# Altium schematic symbol library lib_protel_HC_BOINA.SCHLIB: 493 symbols (part 2 of 4)
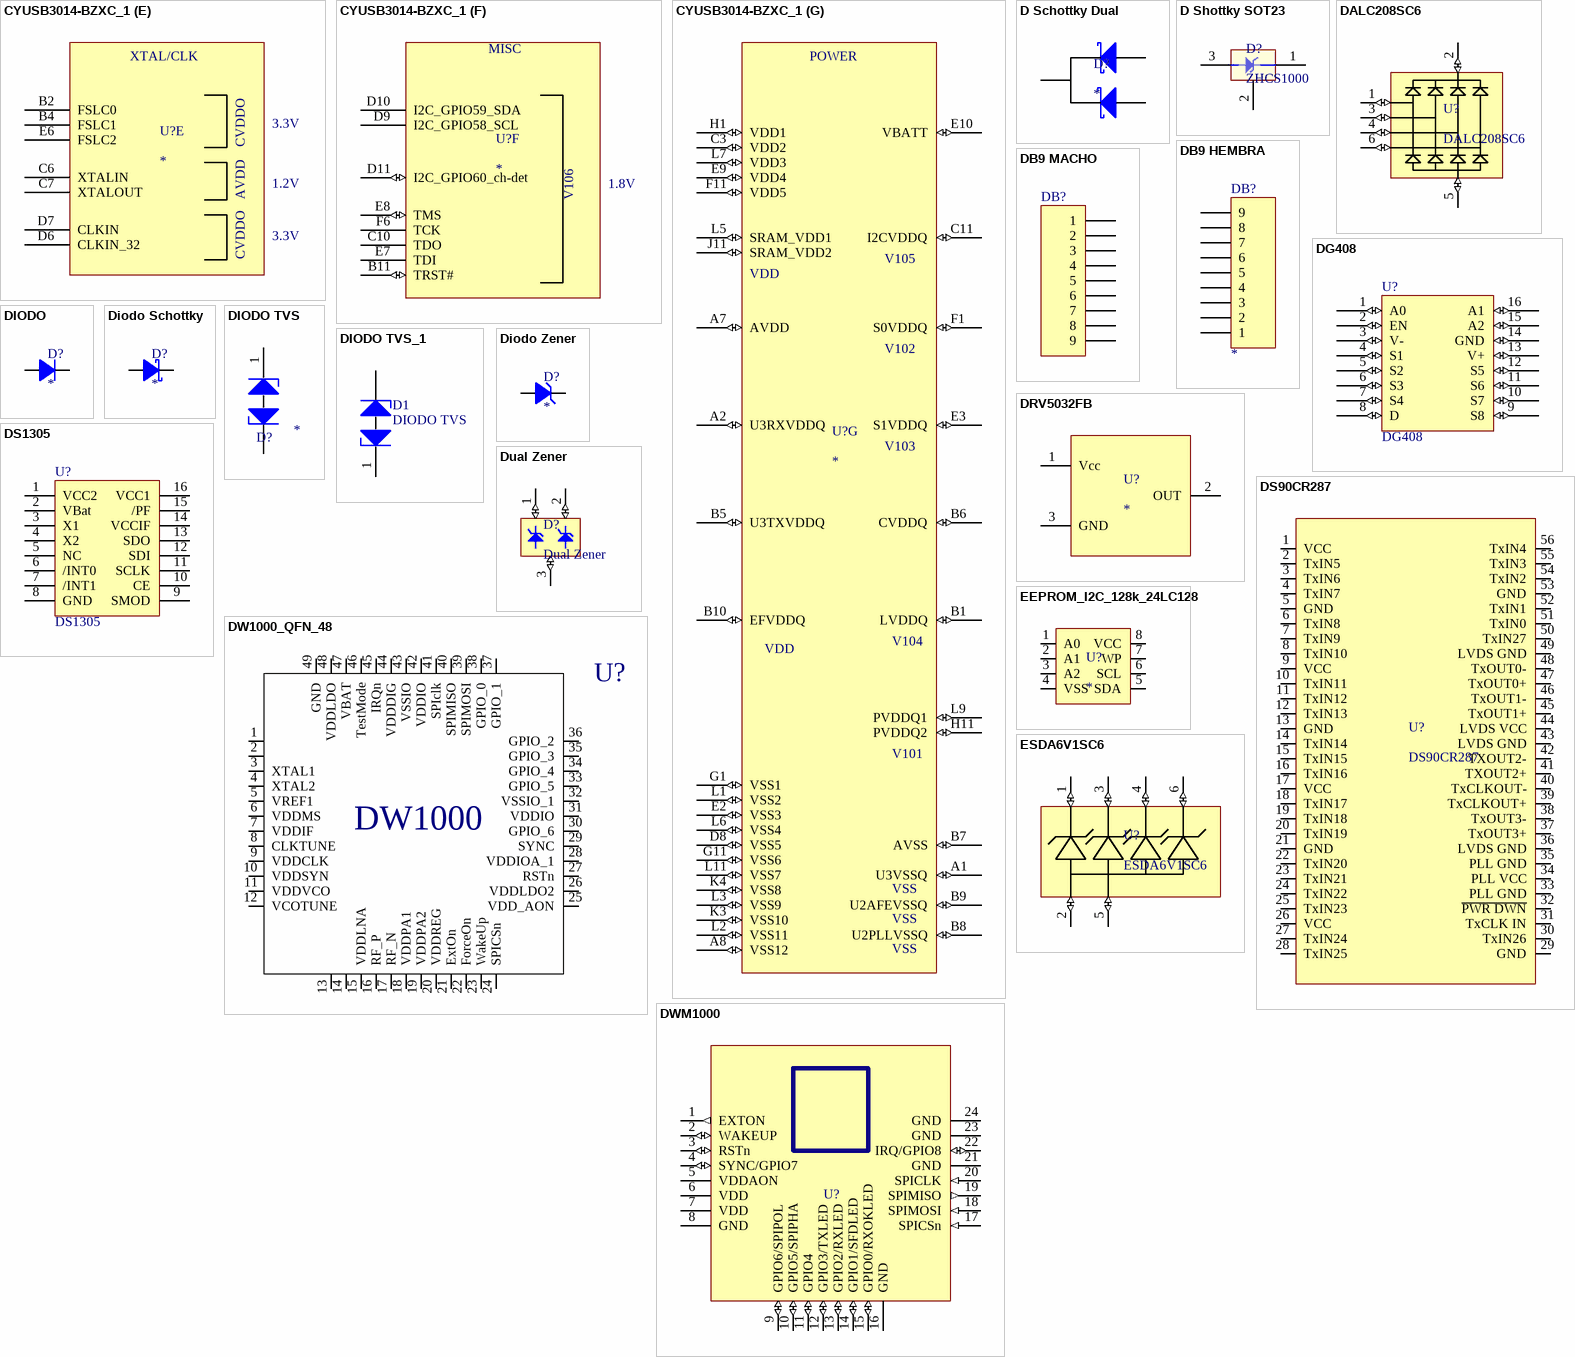
[diagram p22: symbols CYUSB3014-BZXC_1 to ESDA6V1SC6]

## DS90CR287
designator U?
CODIGO DIGIKEY: *; CODIGO FARNELL: *; PRECIO DIGIKEY: *; PRECIO FARNELL: *; FABRICANTE: *; DISTRIBUIDOR: *; MODELO: DS90CR287
pins: 1 VCC (power), 2 TxIN5 (io), 3 TxIN6 (io), 4 TxIN7 (io), 5 GND (power), 6 TxIN8 (io), 7 TxIN9 (io), 8 TxIN10 (io), 9 VCC (power), 10 TxIN11 (io), 11 TxIN12 (io), 12 TxIN13 (io), 13 GND (power), 14 TxIN14 (io), 15 TxIN15 (io), 16 TxIN16 (io), 17 VCC (power), 18 TxIN17 (io), 19 TxIN18 (io), 20 TxIN19 (io), 21 GND (power), 22 TxIN20 (io), 23 TxIN21 (io), 24 TxIN22 (io), 25 TxIN23 (io), 26 VCC (power), 27 TxIN24 (io), 28 TxIN25 (io), 29 GND (power), 30 TxIN26 (io), 31 TxCLK IN (io), 32 ~{PWR DWN} (io), 33 PLL GND (power), 34 PLL VCC (power), 35 PLL GND (power), 36 LVDS GND (power), 37 TxOUT3+ (io), 38 TxOUT3- (io), 39 TxCLKOUT+ (io), 40 TxCLKOUT- (io), 41 TXOUT2+ (io), 42 TXOUT2- (io), 43 LVDS GND (power), 44 LVDS VCC (power), 45 TxOUT1+ (io), 46 TxOUT1- (io), 47 TxOUT0+ (io), 48 TxOUT0- (io), 49 LVDS GND (power), 50 TxIN27 (io), 51 TxIN0 (io), 52 TxIN1 (io), 53 GND (power), 54 TxIN2 (io), 55 TxIN3 (io), 56 TxIN4 (io)

## DS1305
designator U?
Serial Alarm Real Time Clock
footprint DIP-16
pins: 1 VCC2 (power), 2 VBat (power), 3 X1, 4 X2, 5 NC, 6 /INT0, 7 /INT1, 8 GND, 9 SMOD, 10 CE, 11 SCLK, 12 SDI, 13 SDO, 14 VCCIF, 15 /PF, 16 VCC1 (power)

## Dual Zener
designator D?
Diodo con ánodo común; REF - DIGI KEY: AZ23C3V9-TPMSCT-ND
footprint SOT-23 Zener (Dual Zener Common Anode)
pins: 1 (io) "common anode", 2 (io) "common anode", 3 (io) "anode"

## DW1000_QFN_48
designator U?  (value not drawn)
UWB DW1000; CODIGO MOUSER: *; DISTRIBUIDOR1: *; DISTRIBUIDOR2: *; FABRICANTE: *; REF_FABRICANTE: *
pins: 1, 2, 3 XTAL1, 4 XTAL2, 5 VREF1, 6 VDDMS, 7 VDDIF, 8 CLKTUNE, 9 VDDCLK, 10 VDDSYN, 11 VDDVCO, 12 VCOTUNE, 13, 14, 15 VDDLNA, 16 RF_P, 17 RF_N, 18 VDDPA1, 19 VDDPA2, 20 VDDREG, 21 ExtOn, 22 ForceOn, 23 WakeUp, 24 SPICSn, 25 VDD_AON, 26 VDDLDO2, 27 RSTn, 28 VDDIOA_1, 29 SYNC, 30 GPIO_6, 31 VDDIO, 32 VSSIO_1, 33 GPIO_5, 34 GPIO_4, 35 GPIO_3, 36 GPIO_2, 37 GPIO_1, 38 GPIO_0, 39 SPIMOSI, 40 SPIMISO, 41 SPIclk, 42 VDDIO, 43 VSSIO, 44 VDDDIG, 45 IRQn, 46 TestMode, 47 VBAT, 48 VDDLDO, 49 GND
text: DW1000

## DWM1000
designator U?  (value not drawn)
Decawave Módulo; CODIGO DIGIKEY: *; CODIGO MOUSER: *; CODIGO FARNELL: *; ComponentLink1Description: *; ComponentLink1URL: *; REF_FABRICANTE: *; FABRICANTE: *; DISTRIBUIDOR1: *; DISTRIBUIDOR2: *
pins: 1 EXTON (out), 2 WAKEUP (io), 3 RSTn (io), 4 SYNC/GPIO7 (io), 5 VDDAON (power), 6 VDD (power), 7 VDD (power), 8 GND (power), 9 GPIO6/SPIPOL (io), 10 GPIO5/SPIPHA (io), 11 GPIO4 (io), 12 GPIO3/TXLED (io), 13 GPIO2/RXLED (io), 14 GPIO1/SFDLED (io), 15 GPIO0/RXOKLED (io), 16 GND (power), 17 SPICSn (in), 18 SPIMOSI (in), 19 SPIMISO (out), 20 SPICLK (in), 21 GND (power), 22 IRQ/GPIO8 (io), 23 GND (power), 24 GND (power)

## EEPROM_I2C_128k_24LC128
designator U?
CODIGO FARNELL: *; PRECIO FARNELL: *
pins: 1 A0, 2 A1, 3 A2, 4 VSS, 5 SDA, 6 SCL, 7 WP, 8 VCC

## ESDA6V1SC6
designator U?
CODIGO PRODUCTO: ESDA6V1SC6; CODIGO FARNELL: 9802274; CODIGO DIGIKEY: 497-6637-1-ND; PRECIO DIGIKEY 1: 0.58; PRECIO DIGIKEY 100: 0.396; PRECIO DIGIKEY 1000: 0.231; PRECIO DIGIKEY 42000: 0.1863; PRECIO FARNELL 1: 0.65; PRECIO FARNELL 100: 0.36; PRECIO FARNELL 1000: 0.3
footprint SOT 23_6
pins: 1 (io), 2 (io), 3 (io), 4 (io), 5 (io), 6 (io)

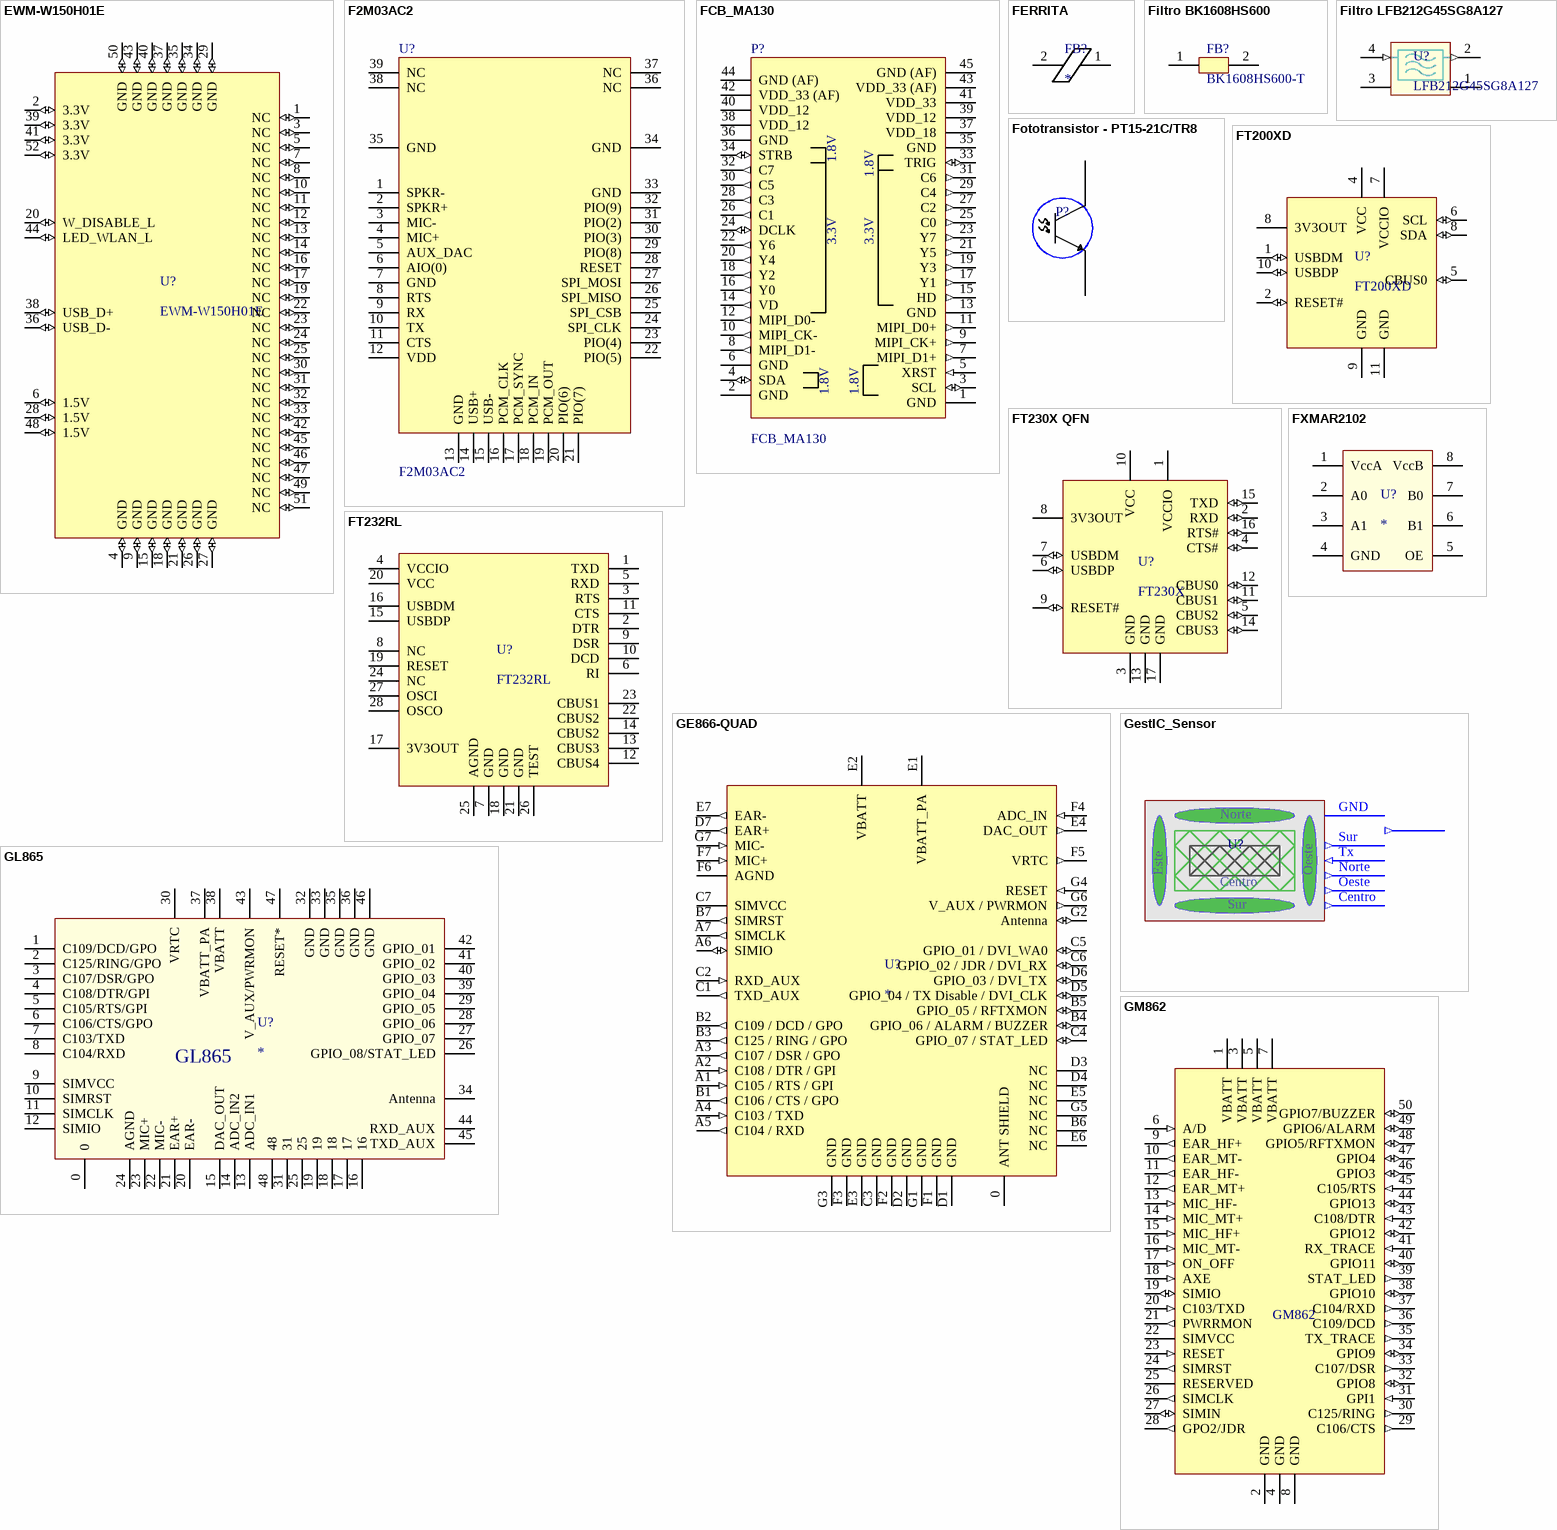
[diagram p7: symbols EWM-W150H01E to GM862]

## EWM-W150H01E
designator U?
FABRICANTE: *; CODIGO FABRICANTE: *; CODIGO DIGIKEY: *; CODIGO FARNELL: *; CODIGO MOUSER: *; DISTRIBUIDOR 1: *; DISTRIBUIDOR 2: *
pins: 1 NC (io), 2 3.3V (io), 3 NC (io), 4 GND (io), 5 NC (io), 6 1.5V (io), 7 NC (io), 8 NC (io), 9 GND (io), 10 NC (io), 11 NC (io), 12 NC (io), 13 NC (io), 14 NC (io), 15 GND (io), 16 NC (io), 17 NC (io), 18 GND (io), 19 NC (io), 20 W_DISABLE_L (io), 21 GND (io), 22 NC (io), 23 NC (io), 24 NC (io), 25 NC (io), 26 GND (io), 27 GND (io), 28 1.5V (io), 29 GND (io), 30 NC (io), 31 NC (io), 32 NC (io), 33 NC (io), 34 GND (io), 35 GND (io), 36 USB_D- (io), 37 GND (io), 38 USB_D+ (io), 39 3.3V (io), 40 GND (io), 41 3.3V (io), 42 NC (io), 43 GND (io), 44 LED_WLAN_L (io), 45 NC (io), 46 NC (io), 47 NC (io), 48 1.5V (io), 49 NC (io), 50 GND (io), 51 NC (io), 52 3.3V (io)

## F2M03AC2
designator U?
footprint F2M03AC2 (modulo bluetooth free2move)
pins: 1 SPKR-, 2 SPKR+, 3 MIC-, 4 MIC+, 5 AUX_DAC, 6 AIO(0), 7 GND, 8 RTS, 9 RX, 10 TX, 11 CTS, 12 VDD, 13 GND, 14 USB+, 15 USB-, 16 PCM_CLK, 17 PCM_SYNC, 18 PCM_IN, 19 PCM_OUT, 20 PIO(6), 21 PIO(7), 22 PIO(5), 23 PIO(4), 24 SPI_CLK, 25 SPI_CSB, 26 SPI_MISO, 27 SPI_MOSI, 28 RESET, 29 PIO(8), 30 PIO(3), 31 PIO(2), 32 PIO(9), 33 GND, 34 GND, 35 GND, 36 NC, 37 NC, 38 NC, 39 NC

## FCB_MA130
designator P?
FCB_MA130 CAMARA SONY; LatestRevisionDate: 17-Jul-2002; LatestRevisionNote: Re-released for DXP Platform.; Publisher: Altium Limited; Distributer: *; Distributer p/n: *; Manufacturer: *; Manufacturer p/n: *
signal-integrity model Connector
pins: 1 GND (power), 2 GND (power), 3 SCL (io), 4 SDA (io), 5 XRST (in), 6 GND (power), 7 MIPI_D1+ (out), 8 MIPI_D1- (out), 9 MIPI_CK+ (out), 10 MIPI_CK- (out), 11 MIPI_D0+ (out), 12 MIPI_D0- (out), 13 GND (power), 14 VD (out), 15 HD (out), 16 Y0 (out), 17 Y1 (out), 18 Y2 (out), 19 Y3 (out), 20 Y4 (out), 21 Y5 (out), 22 Y6 (out), 23 Y7 (out), 24 DCLK (io), 25 C0 (out), 26 C1 (out), 27 C2 (out), 28 C3 (out), 29 C4 (out), 30 C5 (out), 31 C6 (out), 32 C7 (out), 33 TRIG (io), 34 STRB (io), 35 GND (power), 36 GND (power), 37 VDD_18 (power), 38 VDD_12 (power), 39 VDD_12 (power), 40 VDD_12 (power), 41 VDD_33 (power), 42 VDD_33 (AF) (power), 43 VDD_33 (AF) (power), 44 GND (AF) (power), 45 GND (AF) (power)
text: 1.8V; 3.3V

## FERRITA
designator FB?
CODIGO DIGIKEY: *; CODIGO FARNELL: *; CODIGO MOUSER: *; CODIGO PRODUCTO: *; DISTRIBUIDOR 1: *; DISTRIBUIDOR 2: *
pins: 1, 2

## Filtro BK1608HS600
designator FB?, comment BK1608HS600-T
CODIGO DIGIKEY: 587-1873-1-ND
pins: 1, 2

## Filtro LFB212G45SG8A127
designator U?, comment LFB212G45SG8A127
CODIGO DIGIKEY: 490-5021-1-ND
pins: 1, 2 (out), 3, 4 (in)

## Fototransistor - PT15-21C/TR8
designator P?, comment PT15-21C/TR8  (value not drawn)
Fototransistor; CODIGO DIGIKEY: 1080-1380-1-ND; CODIGO FABRICANTE: PT15-21C/TR8
footprint 1206   Fototransistor
pins: 1 E, 2 C

## FT200XD
designator U?
FABRICANTE: *; CODIGO FABRICANTE: *; CODIGO DIGIKEY: *; CODIGO FARNELL: *; CODIGO MOUSER: *; DISTRIBUIDOR 1: *; DISTRIBUIDOR 2: *
pins: 1 USBDM (io), 2 RESET# (io), 4 VCC (power), 5 CBUS0 (io), 6 SCL (io), 7 VCCIO (power), 8 3V3OUT (power), 8 SDA (io), 9 GND (power), 10 USBDP (io), 11 GND (power)

## FT230X QFN
designator U?, comment FT230X
FABRICANTE: *; CODIGO FABRICANTE: *; CODIGO DIGIKEY: *; CODIGO FARNELL: *; CODIGO MOUSER: *; DISTRIBUIDOR 1: *; DISTRIBUIDOR 2: *
pins: 1 VCCIO (power), 2 RXD (io), 3 GND (power), 4 CTS# (io), 5 CBUS2 (io), 6 USBDP (io), 7 USBDM (io), 8 3V3OUT (power), 9 RESET# (io), 10 VCC (power), 11 CBUS1 (io), 12 CBUS0 (io), 13 GND (power), 14 CBUS3 (io), 15 TXD (io), 16 RTS# (io), 17 GND (power)

## FT232RL
designator U?
CODIGO FARNELL: 1146032; CODIGO DIGIKEY: *; CODIGO PRODUCTO: FT232RL; FABRICANTE: *
footprint SSOP-28 (PIC16F876)
pins: 1 TXD, 2 DTR, 3 RTS, 4 VCCIO, 5 RXD, 6 RI, 7 GND, 8 NC, 9 DSR, 10 DCD, 11 CTS, 12 CBUS4, 13 CBUS3, 14 CBUS2, 15 USBDP, 16 USBDM, 17 3V3OUT, 18 GND, 19 RESET, 20 VCC, 21 GND, 22 CBUS2, 23 CBUS1, 24 NC, 25 AGND, 26 TEST, 27 OSCI,  28 OSCO

## FXMAR2102
designator U?
CODIGO DIGIKEY: *; CODIGO FARNELL: *; CODIGO MOUSER: *; FABRICANTE: *; REF_FABRICANTE: *; DISTRIBUIDOR1: *; DISTRIBUIDOR2: *
pins: 1 VccA, 2 A0, 3 A1, 4 GND, 5 OE, 6 B1, 7 B0, 8 VccB

## GE866-QUAD
designator U?
GSM/GPS MODULE 850/900/1800/1900 MHz; CODIGO DIGIKEY: *; CODIGO FARNELL: *; CODIGO MOUSER: *; FABRICANTE: *; REF_FABRICANTE: *; DISTRIBUIDOR 1: *; DISTRIBUIDOR 2: *; ComponentLink1URL: *; ComponentLink1Description: *
pins: 0 ANT SHIELD, A1 C105 / RTS / GPI (in), A2 C108 / DTR / GPI (in), A3 C107 / DSR / GPO (out), A4 C103 / TXD (in), A5 C104 / RXD (out), A6 SIMIO (io), A7 SIMCLK (out), B1 C106 / CTS / GPO (out), B2 C109 / DCD / GPO (out), B3 C125 / RING / GPO (out), B4 GPIO_06 / ALARM / BUZZER (io), B5 GPIO_05 / RFTXMON (io), B6 NC, B7 SIMRST (out), C1 TXD_AUX (out), C2 RXD_AUX (in), C3 GND (power), C4 GPIO_07 / STAT_LED (io), C5 GPIO_01 / DVI_WA0 (io), C6 GPIO_02 / JDR / DVI_RX (io), C7 SIMVCC (power), D1 GND (power), D2 GND (power), D3 NC, D4 NC, D5 GPIO_04 / TX Disable / DVI_CLK (io), D6 GPIO_03 / DVI_TX (io), D7 EAR+ (out), E1 VBATT_PA (power), E2 VBATT (power), E3 GND (power), E4 DAC_OUT (out), E5 NC, E6 NC, E7 EAR- (out), F1 GND (power), F2 GND (power), F3 GND (power), F4 ADC_IN (in), F5 VRTC (out), F6 AGND (power), F7 MIC+ (in), G1 GND (power), G2 Antenna (io), G3 GND (power), G4 RESET (in), G5 NC, G6 V_AUX / PWRMON (out), G7 MIC- (in)

## GestIC_Sensor
designator U?  (value not drawn)
Sensor de movimiento 3D Inductivo; CODIGO DIGIKEY: *; CODIGO MOUSER: *; CODIGO FABRICANTE: *; DISTRIBUIDOR_1: *; DISTRIBUIDOR_2: *
pins: Centro (out), Este (out), GND (power), Norte (out), Oeste (out), Sur (out), Tx (in)

## GL865
designator U?
CODIGO DIGIKEY: *; CODIGO FARNELL: *; CODIGO MOUSER: *; REF_FABRICANTE: *; FABRICANTE: *; DISTRIBUIDOR1: *; DISTRIBUIDOR2: *
footprint GL865
pins: 0, 1 C109/DCD/GPO, 2 C125/RING/GPO, 3 C107/DSR/GPO, 4 C108/DTR/GPI, 5 C105/RTS/GPI, 6 C106/CTS/GPO, 7 C103/TXD, 8 C104/RXD, 9 SIMVCC, 10 SIMRST, 11 SIMCLK, 12 SIMIO, 13 ADC_IN1, 14 ADC_IN2, 15 DAC_OUT, 16, 17, 18, 19, 20 EAR-, 21 EAR+, 22 MIC-, 23 MIC+, 24 AGND, 25, 26 GPIO_08/STAT_LED, 27 GPIO_07, 28 GPIO_06, 29 GPIO_05, 30 VRTC, 31, 32 GND, 33 GND, 34 Antenna, 35 GND, 36 GND, 37 VBATT_PA, 38 VBATT, 39 GPIO_04, 40 GPIO_03, 41 GPIO_02, 42 GPIO_01, 43 V_AUX/PWRMON, 44 RXD_AUX, 45 TXD_AUX, 46 GND, 47 RESET*, 48

## GM862
designator *
CODIGO FARNELL: *; PRECIO FARNELL: *
pins: 1 VBATT (power), 2 GND, 3 VBATT (power), 4 GND, 5 VBATT (power), 6 A/D (in), 7 VBATT (power), 8 GND, 9 EAR_HF+ (out), 10 EAR_MT- (out), 11 EAR_HF- (out), 12 EAR_MT+ (out), 13 MIC_HF- (in), 14 MIC_MT+ (in), 15 MIC_HF+ (in), 16 MIC_MT- (in), 17 ON_OFF (in), 18 AXE (in), 19 SIMIO (io), 20 C103/TXD (in), 21 PWRRMON (out), 22 SIMVCC, 23 RESET (in), 24 SIMRST (out), 25 RESERVED, 26 SIMCLK (out), 27 SIMIN (io), 28 GPO2/JDR (out), 29 C106/CTS (out), 30 C125/RING (out), 31 GPI1 (in), 32 GPIO8 (io), 33 C107/DSR (out), 34 GPIO9 (io), 35 TX_TRACE (out), 36 C109/DCD (out), 37 C104/RXD (out), 38 GPIO10 (io), 39 STAT_LED (out), 40 GPIO11 (io), 41 RX_TRACE (in), 42 GPIO12 (io), 43 C108/DTR (in), 44 GPIO13 (io), 45 C105/RTS (in), 46 GPIO3 (io), 47 GPIO4 (io), 48 GPIO5/RFTXMON (io), 49 GPIO6/ALARM (io), 50 GPIO7/BUZZER (io)

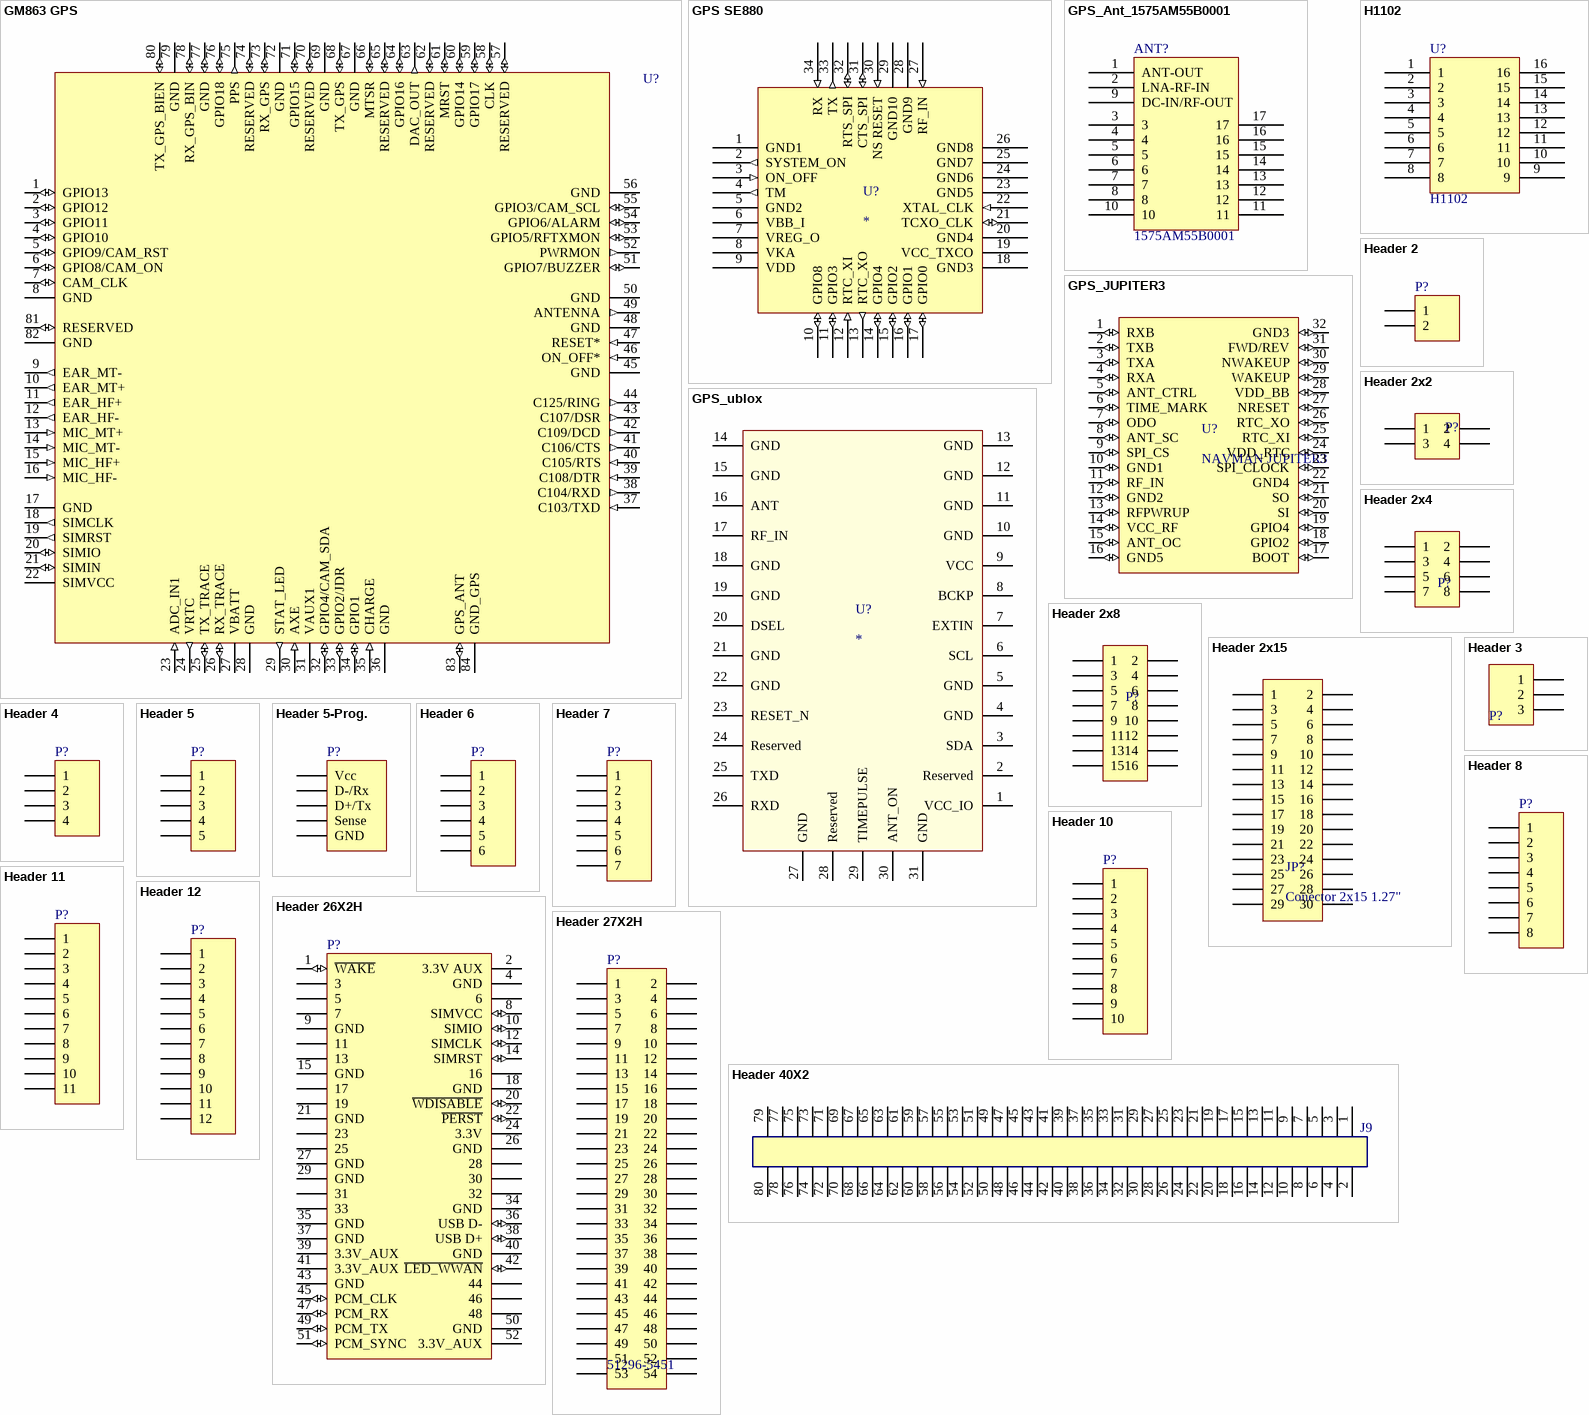
[diagram p8: symbols GM863 GPS to Header 40X2]

## GM863 GPS
designator U?, comment GM 863 GPS  (value not drawn)
MODULO GSM GPS TELIT
footprint GE863-GPS (modulo GSM/GPRS/GPS telit)
pins: 1 GPIO13 (io), 2 GPIO12 (io), 3 GPIO11 (io), 4 GPIO10 (io), 5 GPIO9/CAM_RST (io), 6 GPIO8/CAM_ON (io), 7 CAM_CLK (io), 8 GND (power), 9 EAR_MT- (out), 10 EAR_MT+ (out), 11 EAR_HF+ (out), 12 EAR_HF- (out), 13 MIC_MT+ (in), 14 MIC_MT- (in), 15 MIC_HF+ (in), 16 MIC_HF- (in), 17 GND (power), 18 SIMCLK (out), 19 SIMRST (out), 20 SIMIO (io), 21 SIMIN (io), 22 SIMVCC (power), 23 ADC_IN1 (in), 24 VRTC (out), 25 TX_TRACE (io), 26 RX_TRACE (io), 27 VBATT (power), 28 GND (power), 29 STAT_LED (out), 30 AXE (in), 31 VAUX1 (power), 32 GPIO4/CAM_SDA (io), 33 GPIO2/JDR (io), 34 GPIO1 (io), 35 CHARGE (in), 36 GND (power), 37 C103/TXD (in), 38 C104/RXD (out), 39 C108/DTR (in), 40 C105/RTS (in), 41 C106/CTS (out), 42 C109/DCD (out), 43 C107/DSR (out), 44 C125/RING (out), 45 GND (power), 46 ON_OFF* (in), 47 RESET* (in), 48 GND (power), 49 ANTENNA (out), 50 GND (power), 51 GPIO7/BUZZER (io), 52 PWRMON (out), 53 GPIO5/RFTXMON (io), 54 GPIO6/ALARM (io), 55 GPIO3/CAM_SCL (io), 56 GND (power), 57 RESERVED (io), 58 CLK (io) "PYTHON DEBUG", 59 GPIO17 (io), 60 GPIO14 (io), 61 MRST (io) "PYTHON DEBUG", 62 RESERVED (io), 63 DAC_OUT (out), 64 GPIO16 (io), 65 RESERVED (io), 66 MTSR (io) "PYTHON DEBUG", 67 GND (power), 68 TX_GPS (io), 69 GND (power), 70 RESERVED (io), 71 GPIO15 (io), 72 GND (power), 73 RX_GPS (io), 74 RESERVED (io), 75 PPS (out), 76 GPIO18 (io), 77 GND (io), 78 RX_GPS_BIN (io), 79 GND (power), 80 TX_GPS_BIEN (io), 81 RESERVED (io), 82 GND (power), 83 GPS_ANT (io), 84 GND_GPS (power)

## GPS SE880
designator U?
SE880; CODIGO DIGIKEY: *; CODIGO FARNELL: *; CODIGO MOUSER: *; FABRICANTE: *; REF_FABRICANTE: *; DISTRIBUIDOR 1: *; DISTRIBUIDOR 2: *; ComponentLink1Description: *; ComponentLink1URL: *
pins: 1 GND1 (power), 2 SYSTEM_ON (out), 3 ON_OFF (in), 4 TM (out), 5 GND2 (power), 6 VBB_I (power), 7 VREG_O (power), 8 VKA (power), 9 VDD (power), 10 GPIO8 (io), 11 GPIO3 (io), 12 RTC_XI (in), 13 RTC_XO (out), 14 GPIO4 (io), 15 GPIO2 (io), 16 GPIO1 (io), 17 GPIO0 (io), 18 GND3 (power), 19 VCC_TXCO (power), 20 GND4 (power), 21 TCXO_CLK (io), 22 XTAL_CLK (in), 23 GND5 (power), 24 GND6 (power), 25 GND7 (power), 26 GND8 (power), 27 RF_IN (in), 28 GND9 (power), 29 GND10 (power), 30 NS RESET (in), 31 CTS_SPI (io), 32 RTS_SPI (io), 33 TX (out), 34 RX (in)

## GPS_Ant_1575AM55B0001
designator ANT?, comment 1575AM55B0001
footprint 1575AM55B0001 (Antena GPS Active)
pins: 1 ANT-OUT, 2 LNA-RF-IN, 3, 4, 5, 6, 7, 8, 9 DC-IN/RF-OUT, 10, 11, 12, 13, 14, 15, 16, 17

## GPS_JUPITER3
designator U?, comment NAVMAN JUPITER3
CODIGO PRODUCTO: NAVMAN JUPITER 3
pins: 1 RXB (io), 2 TXB (io), 3 TXA (io), 4 RXA (io), 5 ANT_CTRL (io), 6 TIME_MARK (io), 7 ODO (io), 8 ANT_SC (io), 9 SPI_CS (io), 10 GND1 (io), 11 RF_IN (io), 12 GND2 (io), 13 RFPWRUP (io), 14 VCC_RF (io), 15 ANT_OC (io), 16 GND5 (io), 17 BOOT (io), 18 GPIO2 (io), 19 GPIO4 (io), 20 SI (io), 21 SO (io), 22 GND4 (io), 23 SPI_CLOCK (io), 24 VDD_RTC (io), 25 RTC_XI (io), 26 RTC_XO (io), 27 NRESET (io), 28 VDD_BB (io), 29 WAKEUP (io), 30 NWAKEUP (io), 31 FWD/REV (io), 32 GND3 (io)

## GPS_ublox
designator U?
CODIGO DIGIKEY: *; CODIGO MOUSER: *; CODIGO FARNELL: *; DISTRIBUIDOR1: *; DISTRIBUIDOR2: *; FABRICANTE: *; REF_FABRICNATE: *
footprint gps_ublox (Modulo TinyMesh de Radiocraft)
pins: 1 VCC_IO, 2 Reserved, 3 SDA, 4 GND, 5 GND, 6 SCL, 7 EXTIN, 8 BCKP, 9 VCC, 10 GND, 11 GND, 12 GND, 13 GND, 14 GND, 15 GND, 16 ANT, 17 RF_IN, 18 GND, 19 GND, 20 DSEL, 21 GND, 22 GND, 23 RESET_N, 24 Reserved, 25 TXD, 26 RXD, 27 GND, 28 Reserved, 29 TIMEPULSE, 30 ANT_ON, 31 GND

## H1102
designator U?
pins: 1, 2, 3, 4, 5, 6, 7, 8, 9, 10, 11, 12, 13, 14, 15, 16

## Header 2
designator P?  (value not drawn)
Header, 2-Pin; CODIGO DIGIKEY: *; CODIGO FARNELL: *; CODIGO MOUSER: *; FABRICANTE: *; REF_FABRICANTE: *; DISTRIBUIDOR 1: *; DISTRIBUIDOR 2: *; ComponentLink1URL: *; ComponentLink1Description: *
pins: 1, 2

## Header 2x2
designator P?  (value not drawn)
Header, 2x2-Pin; CODIGO DIGIKEY: *; CODIGO FARNELL: *; CODIGO MOUSER: *; FABRICANTE: *; REF_FABRICANTE: *; DISTRIBUIDOR 1: *; DISTRIBUIDOR 2: *; ComponentLink1URL: *; ComponentLink1Description: *
pins: 1, 2, 3, 4

## Header 2x4
designator P?  (value not drawn)
Header, 2x4-Pin; CODIGO DIGIKEY: *; CODIGO FARNELL: *; CODIGO MOUSER: *; FABRICANTE: *; REF_FABRICANTE: *; DISTRIBUIDOR 1: *; DISTRIBUIDOR 2: *; ComponentLink1URL: *; ComponentLink1Description: *
pins: 1, 2, 3, 4, 5, 6, 7, 8

## Header 2x8
designator P?  (value not drawn)
Header, 2x8-Pin; CODIGO DIGIKEY: *; CODIGO FARNELL: *; CODIGO MOUSER: *; FABRICANTE: *; REF_FABRICANTE: *; DISTRIBUIDOR 1: *; DISTRIBUIDOR 2: *; ComponentLink1URL: *; ComponentLink1Description: *
pins: 1, 2, 3, 4, 5, 6, 7, 8, 9, 10, 11, 12, 13, 14, 15, 16

## Header 2x15
designator JP?, comment Conector 2x15 1.27"
Conector 2x15 1.27" pitch; CODIGO DIGIKEY: *; CODIGO MOUSER: *; CODIGO FARNELL: *; REFERENCIA FABRICANTE: *; FABRICANTE: *; DISTRIBUIDOR 1: *; DISTRIBUIDOR 2: *
pins: 1, 2, 3, 4, 5, 6, 7, 8, 9, 10, 11, 12, 13, 14, 15, 16, 17, 18, 19, 20, 21, 22, 23, 24, 25, 26, 27, 28, 29, 30

## Header 3
designator P?  (value not drawn)
Header, 3-Pin; CODIGO DIGIKEY: *; CODIGO FARNELL: *; CODIGO MOUSER: *; FABRICANTE: *; REF_FABRICANTE: *; DISTRIBUIDOR 1: *; DISTRIBUIDOR 2: *; ComponentLink1URL: *; ComponentLink1Description: *
pins: 1, 2, 3

## Header 4
designator P?  (value not drawn)
Header, 4-Pin; CODIGO DIGIKEY: *; CODIGO FARNELL: *; CODIGO MOUSER: *; REF_FABRICANTE: *; FABRICANTE: *; DISTRIBUIDOR 1: *; DISTRIBUIDOR 2: *; ComponentLink1URL: *; ComponentLink1Description: *
pins: 1, 2, 3, 4

## Header 5
designator P?  (value not drawn)
Header, 5; CODIGO DIGIKEY: *; CODIGO FARNELL: *; CODIGO MOUSER: *; FABRICANTE: *; REF_FABRICANTE: *; DISTRIBUIDOR 1: *; DISTRIBUIDOR 2: *; ComponentLink1URL: *; ComponentLink1Description: *
pins: 1, 2, 3, 4, 5

## Header 5-Prog.
designator P?  (value not drawn)
Header, 5-Pin; CODIGO DIGIKEY: *; CODIGO FARNELL: *; CODIGO MOUSER: *; FABRICANTE: *; REF_FABRICANTE: *; DISTRIBUIDOR 1: *; DISTRIBUIDOR 2: *; ComponentLink1URL: *; ComponentLink1Description: *
pins: 1 Vcc, 2 D-/Rx, 3 D+/Tx, 4 Sense, 5 GND

## Header 6
designator P?  (value not drawn)
Header, 6-Pin; CODIGO DIGIKEY: *; CODIGO FARNELL: *; CODIGO MOUSER: *; FABRICANTE: *; REF_FABRICANTE: *; DISTRIBUIDOR 1: *; DISTRIBUIDOR 2: *; ComponentLink1URL: *; ComponentLink1Description: *
pins: 1, 2, 3, 4, 5, 6

## Header 7
designator P?  (value not drawn)
Header, 7-Pin; CODIGO DIGIKEY: *; CODIGO FARNELL: *; CODIGO MOUSER: *; FABRICANTE: *; REF_FABRICANTE: *; DISTRIBUIDOR 1: *; DISTRIBUIDOR 2: *; ComponentLink1URL: *; ComponentLink1Description: *
pins: 1, 2, 3, 4, 5, 6, 7

## Header 8
designator P?  (value not drawn)
Header, 8-Pin; CODIGO DIGIKEY: *; CODIGO FARNELL: *; CODIGO MOUSER: *; FABRICANTE: *; REF_FABRICANTE: *; DISTRIBUIDOR 1: *; DISTRIBUIDOR 2: *; ComponentLink1URL: *; ComponentLink1Description: *
pins: 1, 2, 3, 4, 5, 6, 7, 8

## Header 10
designator P?  (value not drawn)
Header, 10-Pin; CODIGO DIGIKEY: *; CODIGO FARNELL: *; CODIGO MOUSER: *; FABRICANTE: *; REF_FABRICANTE: *; DISTRIBUIDOR 1: *; DISTRIBUIDOR 2: *; ComponentLink1URL: *; ComponentLink1Description: *
pins: 1, 2, 3, 4, 5, 6, 7, 8, 9, 10

## Header 11
designator P?  (value not drawn)
Header, 11-Pin; CODIGO DIGIKEY: *; CODIGO FARNELL: *; CODIGO MOUSER: *; FABRICANTE: *; REF_FABRICANTE: *; DISTRIBUIDOR 1: *; DISTRIBUIDOR 2: *; ComponentLink1URL: *; ComponentLink1Description: *
pins: 1, 2, 3, 4, 5, 6, 7, 8, 9, 10, 11

## Header 12
designator P?  (value not drawn)
Header, 12-Pin; CODIGO DIGIKEY: *; CODIGO FARNELL: *; CODIGO MOUSER: *; FABRICANTE: *; REF_FABRICANTE: *; DISTRIBUIDOR 1: *; DISTRIBUIDOR 2: *; ComponentLink1URL: *; ComponentLink1Description: *
pins: 1, 2, 3, 4, 5, 6, 7, 8, 9, 10, 11, 12

## Header 26X2H
designator P?
Header, 26-Pin, Dual row, Right Angle; LatestRevisionDate: 17-Jul-2002; LatestRevisionNote: Re-released for DXP Platform.; Publisher: Altium Limited; CODIGO FABRICANTE: *; CODIGO DIGIKEY: *; CODIGO FARNELL: *; CODIGO MOUSER: *; DISTRIBUIDOR 1: *; DISTRIBUIDOR 2: *
signal-integrity model Connector
pins: 1 ~{WAKE} (io), 2 3.3V AUX (power), 3, 4 GND (power), 5, 6, 7, 8 SIMVCC (io), 9 GND (power), 10 SIMIO (io), 11, 12 SIMCLK (io), 13, 14 SIMRST (io), 15 GND (power), 16, 17, 18 GND (power), 19, 20 ~{WDISABLE} (io), 21 GND (power), 22 ~{PERST} (io), 23, 24 3.3V (power), 25, 26 GND (power), 27 GND (power), 28, 29 GND (power), 30, 31, 32, 33, 34 GND (power), 35 GND (power), 36 USB D- (io), 37 GND (power), 38 USB D+ (io), 39 3.3V_AUX (power), 40 GND (power), 41 3.3V_AUX (power), 42 ~{LED_WWAN} (io), 43 GND (power), 44, 45 PCM_CLK (io), 46, 47 PCM_RX (io), 48, 49 PCM_TX (io), 50 GND (power), 51 PCM_SYNC (io), 52 3.3V_AUX (power)

## Header 27X2H
designator P?, comment 51296-5451
Header, 25-Pin, Dual row, Right Angle; FABRICANTE: MOLEX; LatestRevisionDate: 17-Jul-2002; LatestRevisionNote: Re-released for DXP Platform.; Publisher: Altium Limited; CODIGO: *; PRECIO: *
signal-integrity model Connector
pins: 1, 2, 3, 4, 5, 6, 7, 8, 9, 10, 11, 12, 13, 14, 15, 16, 17, 18, 19, 20, 21, 22, 23, 24, 25, 26, 27, 28, 29, 30, 31, 32, 33, 34, 35, 36, 37, 38, 39, 40, 41, 42, 43, 44, 45, 46, 47, 48, 49, 50, 51, 52, 53, 54

## Header 40X2
designator J9  (value not drawn)
connector; MOLEX: 52901-0874
footprint MOLEX-SLIMSTACK-80M
pins: 1, 2, 3, 4, 5, 6, 7, 8, 9, 10, 11, 12, 13, 14, 15, 16, 17, 18, 19, 20, 21, 22, 23, 24, 25, 26, 27, 28, 29, 30, 31, 32, 33, 34, 35, 36, 37, 38, 39, 40, 41, 42, 43, 44, 45, 46, 47, 48, 49, 50, 51, 52, 53, 54, 55, 56, 57, 58, 59, 60, 61, 62, 63, 64, 65, 66, 67, 68, 69, 70, 71, 72, 73, 74, 75, 76, 77, 78, 79, 80

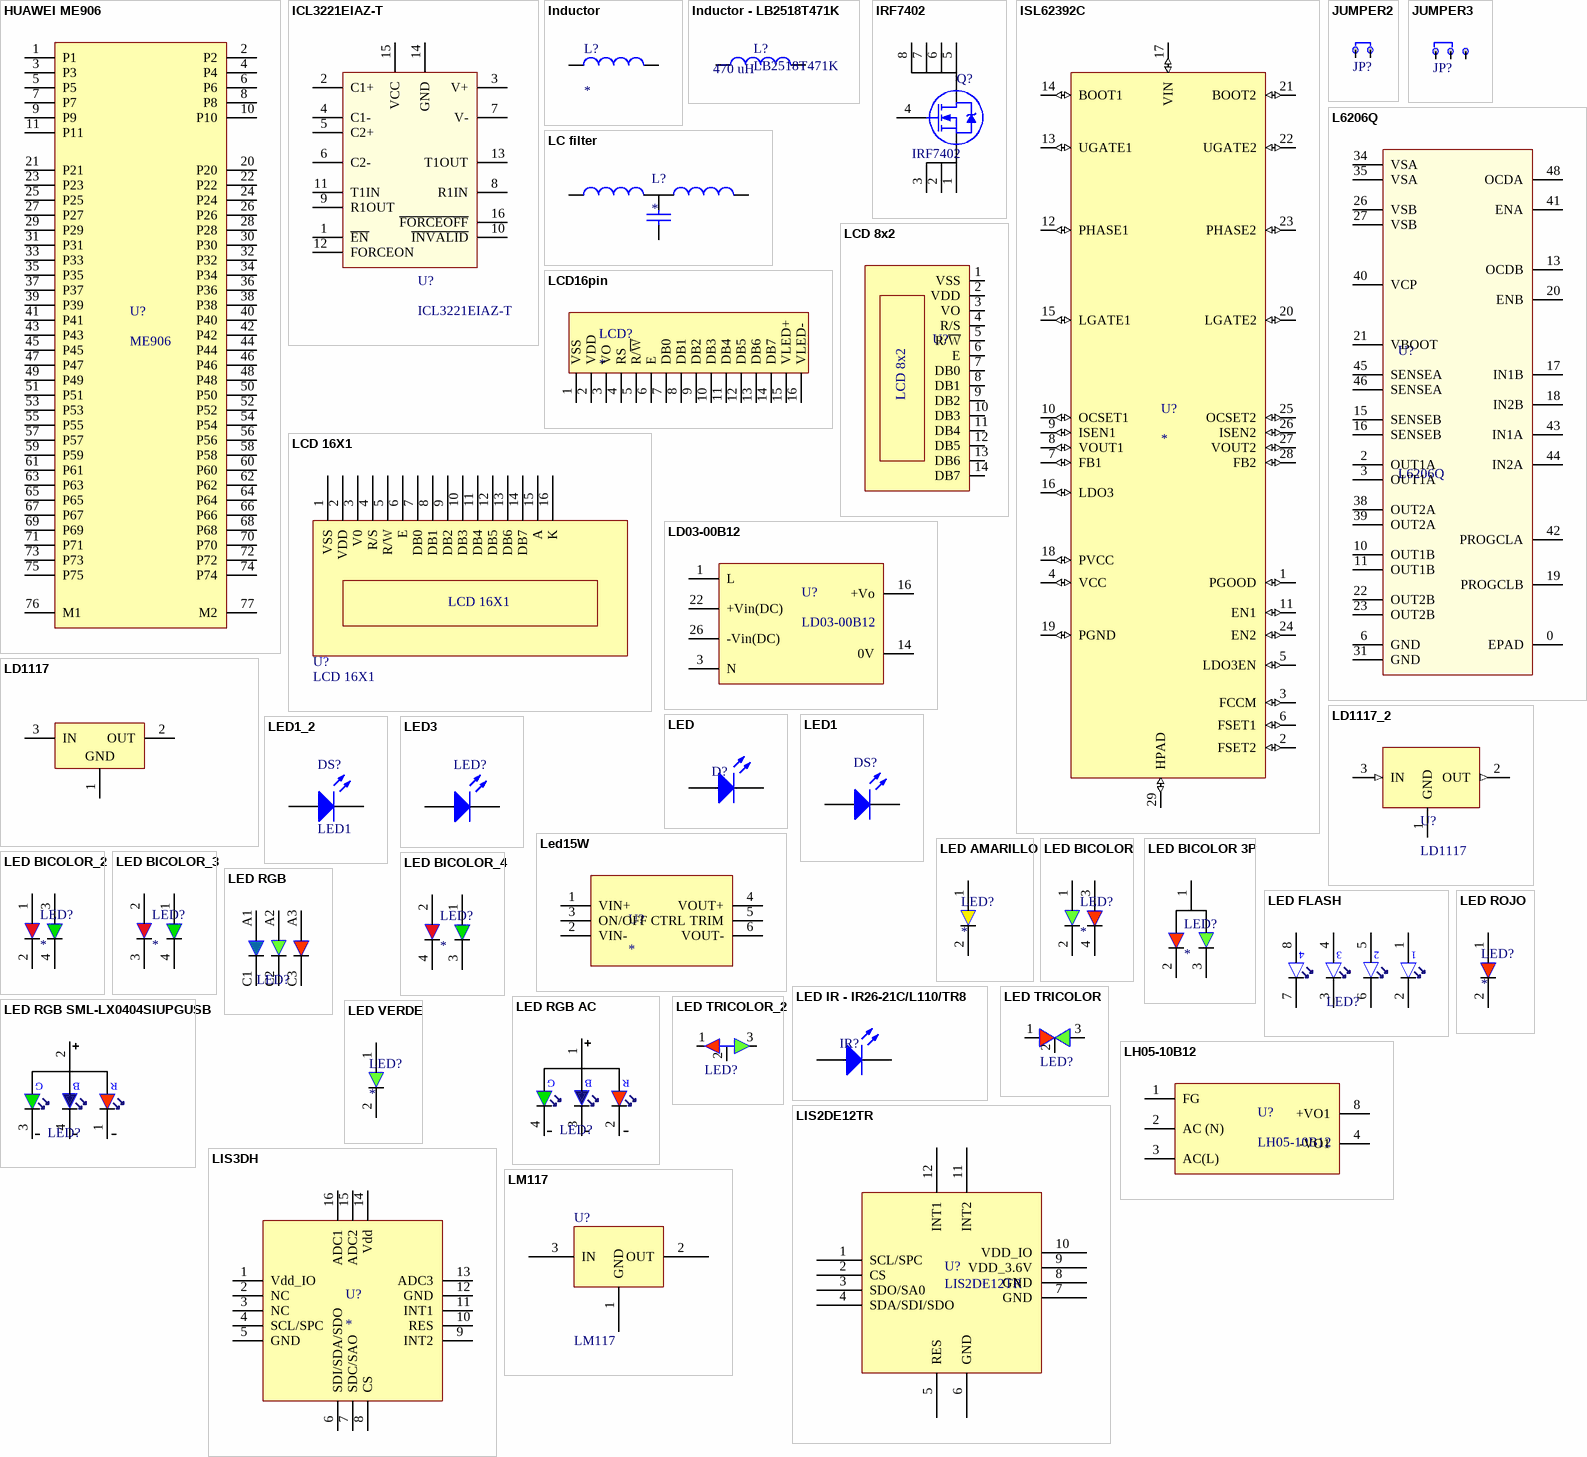
[diagram p9: symbols HUAWEI ME906 to LM117]

## HUAWEI ME906
designator U?, comment ME906
CODIGO DIGIKEY: *; CODIGO FARNELL: *; CODIGO MOUSER: *; CODIGO FABRICANTE: *
pins: 1 P1, 2 P2, 3 P3, 4 P4, 5 P5, 6 P6, 7 P7, 8 P8, 9 P9, 10 P10, 11 P11, 20 P20, 21 P21, 22 P22, 23 P23, 24 P24, 25 P25, 26 P26, 27 P27, 28 P28, 29 P29, 30 P30, 31 P31, 32 P32, 33 P33, 34 P34, 35 P35, 36 P36, 37 P37, 38 P38, 39 P39, 40 P40, 41 P41, 42 P42, 43 P43, 44 P44, 45 P45, 46 P46, 47 P47, 48 P48, 49 P49, 50 P50, 51 P51, 52 P52, 53 P53, 54 P54, 55 P55, 56 P56, 57 P57, 58 P58, 59 P59, 60 P60, 61 P61, 62 P62, 63 P63, 64 P64, 65 P65, 66 P66, 67 P67, 68 P68, 69 P69, 70 P70, 71 P71, 72 P72, 73 P73, 74 P74, 75 P75, 76 M1, 77 M2

## ICL3221EIAZ-T
designator U?
FABRICANTE: Intersil; CODIGO DIGIKEY: ICL3221EIAZ-TTR-ND; CODIGO FARNELL: *; CODIGO MOUSER: *; REF_FABRICANTE: ICL3221EIAZ-T; DISTRIBUIDOR1: *; DISTRIBUIDOR2: *
footprint SSOP-16
pins: 1 ~{EN}, 2 C1+, 3 V+, 4 C1-, 5 C2+, 6 C2-, 7 V-, 8 R1IN, 9 R1OUT, 10 ~{INVALID}, 11 T1IN, 12 FORCEON, 13 T1OUT, 14 GND, 15 VCC, 16 ~{FORCEOFF}

## Inductor
designator L?
CODIGO FARNELL: *; CODIGO DIGIKEY: *; CODIGO MOUSER: *; DISTRIBUIDOR 1: *; DISTRIBUIDOR 2: *; FABRICANTE: *; REF_FABRICANTE: *; Intensidad: *; ENCAPSULADO: *; Valor: *
pins: 1, 2

## Inductor - LB2518T471K
designator L?, comment LB2518T471K  value 470 uH
470 uH ± 10 %; CODIGO DIGIKEY: 587-2521-1-ND; REF_FABRICANTE: LB2518T471K
footprint 1007 - INDUCTOR
footprint Inductor Radial (Pin Power Inductor)
pins: 1, 2

## IRF7402
designator Q?
N-Channel Power MOSFET; Note: Pin 2 is electrically connected to pin 4.; Published: 8-Jun-2000; LatestRevisionDate: 17-Jul-2002; LatestRevisionNote: Re-released for DXP Platform.; DatasheetDocument: PD-9.814; PackageReference: TO-220AB; Publisher: Altium Limited; Code_JEDEC: TO-220-AB; ComponentLink1Description: Manufacturer Link; ComponentLink1URL: http://www.irf.com/; FABRICANTE: *; PROVEEDOR: *
footprint TO-220AB (TO, Thru-Hole, Vertical, Heatsink Mounted; 3 In-Line Leads; Pitch 2.54 mm)
simulation model IRF1010 (Spice Subcircuit)
pins: 1 5 (power), 2 D, 2 6 (power), 3 S, 3 7 (power), 4 G, 5 9 (power), 6 10 (power), 7 11 (power), 8 12 (power)

## ISL62392C
designator U?
CODIGO DIGIKEY: *; CODIGO FARNELL: *; CODIGO MOUSER: *; DISTRIBUIDOR 1: *; DISTRIBUIDOR 2: *; CODIGO FABRICANTE: *; FABRICANTE: *
pins: 1 PGOOD (io), 2 FSET2 (io), 3 FCCM (io), 4 VCC (io), 5 LDO3EN (io), 6 FSET1 (io), 7 FB1 (io), 8 VOUT1 (io), 9 ISEN1 (io), 10 OCSET1 (io), 11 EN1 (io), 12 PHASE1 (io), 13 UGATE1 (io), 14 BOOT1 (io), 15 LGATE1 (io), 16 LDO3 (io), 17 VIN (io), 18 PVCC (io), 19 PGND (io), 20 LGATE2 (io), 21 BOOT2 (io), 22 UGATE2 (io), 23 PHASE2 (io), 24 EN2 (io), 25 OCSET2 (io), 26 ISEN2 (io), 27 VOUT2 (io), 28 FB2 (io), 29 HPAD (io)

## JUMPER2
designator JP?
footprint HDR1X2
pins: 1, 2

## JUMPER3
designator JP?  (value not drawn)
Jumper 3; CODIGO DIGIKEY: *; CODIGO FARNELL: *; CODIGO MOUSER: *; FABRICANTE: *; REF_FABRICANTE: *; ComponentLink1Description: *; ComponentLink1URL: *; DISTRIBUIDOR1: *; DISTRIBUIDOR2: *
pins: 1, 2, 3

## L6206Q
designator U?
H-Bridge; FABRICANTE: STMicroelectronics; V Supply: 8 V ~ 52 V; Iout: 2.5A; CODIGO DIGIKEY: 497-14753-ND; CODIGO FARNELL: *; CODIGO MOUSER: *; DISTRIBUIDOR 1: *; DISTRIBUIDOR 2: *; REF_FABRICANTE: L6206Q; ComponentLink1URL: *; ComponentLink1Description: *; V load: 8 V ~ 52 V
footprint VFQFN-48 EP
pins: 0 EPAD, 1 NC hidden, 2 OUT1A, 3 OUT1A, 4 NC hidden, 5 NC hidden, 6 GND, 7 NC hidden, 8 NC hidden, 9 NC hidden, 10 OUT1B, 11 OUT1B, 12 NC hidden, 13 OCDB, 14 NC hidden, 15 SENSEB, 16 SENSEB, 17 IN1B, 18 IN2B, 19 PROGCLB, 20 ENB, 21 VBOOT, 22 OUT2B, 23 OUT2B, 24 NC hidden, 25 NC hidden, 26 VSB, 27 VSB, 28 NC hidden, 29 NC hidden, 30 NC hidden, 31 GND, 32 NC hidden, 33 NC hidden, 34 VSA, 35 VSA, 36 NC hidden, 37 NC hidden, 38 OUT2A, 39 OUT2A, 40 VCP, 41 ENA, 42 PROGCLA, 43 IN1A, 44 IN2A, 45 SENSEA, 46 SENSEA, 47 NC hidden, 48 OCDA

## LC filter
designator L?
Filtro LC; CODIGO_DIGIKEY: *; CODIGO_MOUSER: *; CODIGO_FARNELL: *; FABRICANTE: *; REFERENCIA_FABRICANTE: *; DISTRIBUIDOR1: *; DISTRIBUIDOR2: *
pins: 1, 2, 3

## LCD16pin
designator LCD?
CODIGO FARNELL: *; PRECIO FARNELL: *
pins: 1 VSS, 2 VDD, 3 VO, 4 RS, 5 R/~{W}, 6 E, 7 DB0, 8 DB1, 9 DB2, 10 DB3, 11 DB4, 12 DB5, 13 DB6, 14 DB7, 15 VLED+, 16 VLED-

## LCD 8x2
designator U?  (value not drawn)
CODIGO FARNELL: *; PRECIO FARNELL: *
pins: 1 VSS, 2 VDD, 3 VO, 4 R/S, 5 R/~{W}, 6 E, 7 DB0, 8 DB1, 9 DB2, 10 DB3, 11 DB4, 12 DB5, 13 DB6, 14 DB7

## LCD 16X1
designator U?
pins: 1 VSS, 2 VDD, 3 V0, 4 R/S, 5 R/W, 6 E, 7 DB0, 8 DB1, 9 DB2, 10 DB3, 11 DB4, 12 DB5, 13 DB6, 14 DB7, 15 A, 16 K

## LD03-00B12
designator U?
CONVERSOR AC/DC A 12V; FABRICANTE: MORNSUN; PRECIO: 5,9 EUROS; DISTRIBUIDOR: OLFER
footprint LD03-00B12 (CONVERSOR AC/DC 12V 250mA)
pins: 1 L, 3 N, 14 0V, 16 +Vo, 22 +Vin(DC), 26 -Vin(DC)

## LD1117
designator U?
Series 3-Terminal Positive Regulator; Manufacturer: National Semiconductor; Package Information: Latest Revision: 1995; Class I: Power Management; Class II: Voltage Regulator; Note: Tab is connected to GND; Published: 15-Apr-2002; Datasheet: Latest Revision: May-1999; Package Reference: T03B; Publisher: Altium Limited; PRECIO FARNELL: *; CODIGO FARNELL: *
pins: 1 GND (power), 2 OUT (power), 3 IN (power)

## LD1117_2
designator U?, comment LD1117
CODIGO FARNELL: *; CODIGO DIGIKEY: *
pins: 1 GND (power), 2 OUT (out) "GND", 3 IN (in) "GND"

## LED
designator D?  (value not drawn)
LED; CODIGO DIGIKEY: *; CODIGO FARNELL: *; CODIGO MOUSER: *; REF_FABRICANTE: *; FABRICANTE: *; DISTRIBUIDOR 1: *; DISTRIBUIDOR 2: *; ComponentLink1Description: *; ComponentLink1URL: *; LUMINOSIDAD: *; Vfd: *; Ifd: *
pins: 1 A, 2 K

## LED1
designator DS?
Typical RED GaAs LED; Manufacturer: Generic Components; Class I: Optoelectronic; Published: 8-Jun-2000; Revision: July-2002: Re-released for DXP Platform.; Publisher: Altium Limited; Class II: LED; REF FARNELL 1206 SMD ROJO 5V 30mA: 3599735; REF FARNELL 1206 SMD VERDE 5V 30mA: 3599784
footprint LED-1
simulation model LED1 (Diode)
pins: 1 A, 2 K

## LED1_2
designator DS?, comment LED1
Typical RED GaAs LED; Manufacturer: Generic Components; Class I: Optoelectronic; Published: 8-Jun-2000; Revision: July-2002: Re-released for DXP Platform.; Publisher: Altium Limited; Class II: LED; REF FARNELL 1206 SMD ROJO 5V 30mA: 3599735; REF FARNELL 1206 SMD VERDE 5V 30mA: 3599784
footprint LED-1
simulation model LED1 (Diode)
pins: 1 A, 2 K

## LED3
designator LED?, comment V OK  (value not drawn)
Typical BLUE SiC LED; Manufacturer: Generic Components; Class I: Optoelectronic; Published: 8-Jun-2000; Revision: July-2002: Re-released for DXP Platform.; Publisher: Altium Limited; Class II: LED
footprint 1206 (footprint LEDS_RESIST 1206)
simulation model LED3 (Diode)
pins: 1 A, 2 K

## Led15W
designator U?
pins: 1 VIN+, 2 VIN-, 3 ON/OFF CTRL, 4 VOUT+, 5 TRIM, 6 VOUT-

## LED AMARILLO
designator LED?
Led bicolor 1 ánodo, 2 cátodos; REF_FABRICANTE: *; CODIGO DIGIKEY: *; CODIGO FARNELL: *; CODIGO MOUSER: *; DISTRIBUIDOR 1: *; DISTRIBUIDOR 2: *; FABRICANTE: *; ComponentLink1Description: *; ComponentLink1URL: *; Vfd: *; Ifd: *; LUMINOSIDAD: *
pins: 1, 2

## LED BICOLOR
designator LED?
REF FABRICANTE: *; CODIGO DIGIKEY: *; CODIGO FARNELL: *; CODIGO MOUSER: *; DISTRIBUIDOR 1: *; DISTRIBUIDOR 2: *; FABRICANTE: *
pins: 1, 2, 3 6, 4

## LED BICOLOR 3P
designator LED?
Led bicolor 1 ánodo, 2 cátodos; REF_FABRICANTE: *; CODIGO DIGIKEY: *; CODIGO FARNELL: *; CODIGO MOUSER: *; DISTRIBUIDOR 1: *; DISTRIBUIDOR 2: *; FABRICANTE: *; ComponentLink1Description: *; ComponentLink1URL: *; Vf: *; If: *
pins: 1, 2, 3

## LED BICOLOR_2
designator LED?
REF_FABRICANTE: *; CODIGO DIGIKEY: *; CODIGO FARNELL: *; CODIGO MOUSER: *; DISTRIBUIDOR 1: *; DISTRIBUIDOR 2: *; FABRICANTE: *
pins: 1, 2, 3, 4

## LED BICOLOR_3
designator LED?
Led bicolor; REF_FABRICANTE: *; CODIGO DIGIKEY: *; CODIGO FARNELL: *; CODIGO MOUSER: *; DISTRIBUIDOR 1: *; DISTRIBUIDOR 2: *; FABRICANTE: *; ComponentLink1URL: *; ComponentLink1Description: *
pins: 1, 2, 3, 4

## LED BICOLOR_4
designator LED?
Led bicolor; REF_FABRICANTE: *; CODIGO DIGIKEY: *; CODIGO FARNELL: *; CODIGO MOUSER: *; DISTRIBUIDOR 1: *; DISTRIBUIDOR 2: *; FABRICANTE: *; ComponentLink1URL: *; ComponentLink1Description: *
pins: 1, 2, 3, 4

## LED FLASH
designator LED?  (value not drawn)
LED RGB COMMON ANODE; CODIGO DIGIKEY: *; CODIGO FARNELL: *; CODIGO MOUSER: *; FABRICANTE: *; CODIGO FABRICANTE: *; VALUE: *
pins: 1 Anode, 2 cathode, 3 cathode, 4 Anode, 5 Anode, 6 cathode, 7 cathode, 8 Anode
1 alternate drawing of the same symbol

## LED IR - IR26-21C/L110/TR8
designator IR?, comment LED Emisor IR  (value not drawn)
REFERENCIA FABRICANTE: IR26-21C/L110/TR8; CODIGO DIGIKEY: 1080-1357-1-ND
footprint LED 3.2 x 1.6
pins: 1 K, 2 A

## LED RGB
designator LED?  (value not drawn)
CODIGO DIGIKEY: *; CODIGO FARNELL: *; CODIGO MOUSER: *; REFERENCIA FABRICANTE: *; FABRICANTE: *
pins: A1, A2 2, A3 6, C1 0, C2 0, C3

## LED RGB AC
designator LED?  (value not drawn)
LED RGB COMMON ANODE; CODIGO DIGIKEY: *; CODIGO FARNELL: *; CODIGO MOUSER: *; REFERENCIA FABRICANTE: *; FABRICANTE: *; DISTRIBUIDOR 1: *; DISTRIBUIDOR 2: *
pins: 1 Anode, 2 R, 3 B, 4 G
1 alternate drawing of the same symbol

## LED RGB SML-LX0404SIUPGUSB
designator LED?, comment SML-LX0404SIUPGUSB  (value not drawn)
LED RGB COMMON ANODE; CODIGO_DIGIKEY: *; CODIGO FARNELL: *; CODIGO MOUSER: *; REFERENCIA FABRICANTE: *; FABRICANTE: *; DISTRIBUIDOR 1: *; DISTRIBUIDOR 2: *
pins: 1 R, 2 Anode, 3 G, 4 B
1 alternate drawing of the same symbol

## LED ROJO
designator LED?
Led bicolor 1 ánodo, 2 cátodos; REF_FABRICANTE: *; CODIGO DIGIKEY: *; CODIGO FARNELL: *; CODIGO MOUSER: *; DISTRIBUIDOR 1: *; DISTRIBUIDOR 2: *; FABRICANTE: *; ComponentLink1Description: *; ComponentLink1URL: *; Vfd: *; Ifd: *; LUMINOSIDAD: *
pins: 1, 2

## LED TRICOLOR
designator LED?
LED Tricolor 3mm
footprint LED Tricolor
pins: 1 DAC1, 2 DAC3, 3 DAC2

## LED TRICOLOR_2
designator LED?
LED Tricolor 3mm
footprint LED Tricolor
pins: 1 DAC1, 2 DAC3, 3 DAC2

## LED VERDE
designator LED?
Led bicolor 1 ánodo, 2 cátodos; REF_FABRICANTE: *; CODIGO DIGIKEY: *; CODIGO FARNELL: *; CODIGO MOUSER: *; DISTRIBUIDOR 1: *; DISTRIBUIDOR 2: *; FABRICANTE: *; ComponentLink1Description: *; ComponentLink1URL: *; Vfd: *; Ifd: *; LUMINOSIDAD: *
pins: 1, 2

## LH05-10B12
designator U?
CONVERSOR AC/DC A 12V; FABRICANTE: MORNSUN; PRECIO: 5,9 EUROS; DISTRIBUIDOR: OLFER
footprint LH05-10B12 (CONVERSOR AC/DC 12V)
pins: 1 FG, 2 AC (N), 3 AC(L), 4 -VO1, 8 +VO1

## LIS2DE12TR
designator U?
Acelerómetro XYZ ~ 2g/4g/8g/16g ~ 1.7V - 3.6V ~ I2C/SPI; CÓDIGO DIGIKEY: 497-15997-1-ND; REF_FABRICANTE: LIS2DE12TR
footprint LGA-12
pins: 1 SCL/SPC, 2 CS, 3 SDO/SA0, 4 SDA/SDI/SDO, 5 RES, 6 GND, 7 GND, 8 GND, 9 VDD_3.6V, 10 VDD_IO, 11 INT2, 12 INT1

## LIS3DH
designator U?
Acelerómetro XYZ ~ 2g/4g/8g/16g ~ 1.7V - 3.6V ~ I2C/SPI; CÓDIGO DIGIKEY: *; CÓDIGO FARNELL: *; CÓDIGO MOUSER: *; FABRICANTE: *; REF_FABRICANTE: *; DISTRIBUIDOR 1: *; DISTRIBUIDOR 2: *
pins: 1 Vdd_IO, 2 NC, 3 NC, 4 SCL/SPC, 5 GND, 6 SDI/SDA/SDO, 7 SDC/SAO, 8 CS, 9 INT2, 10 RES, 11 INT1, 12 GND, 13 ADC3, 14 Vdd, 15 ADC2, 16 ADC1

## LM117
designator U?
pins: 1 GND, 2 OUT, 3 IN

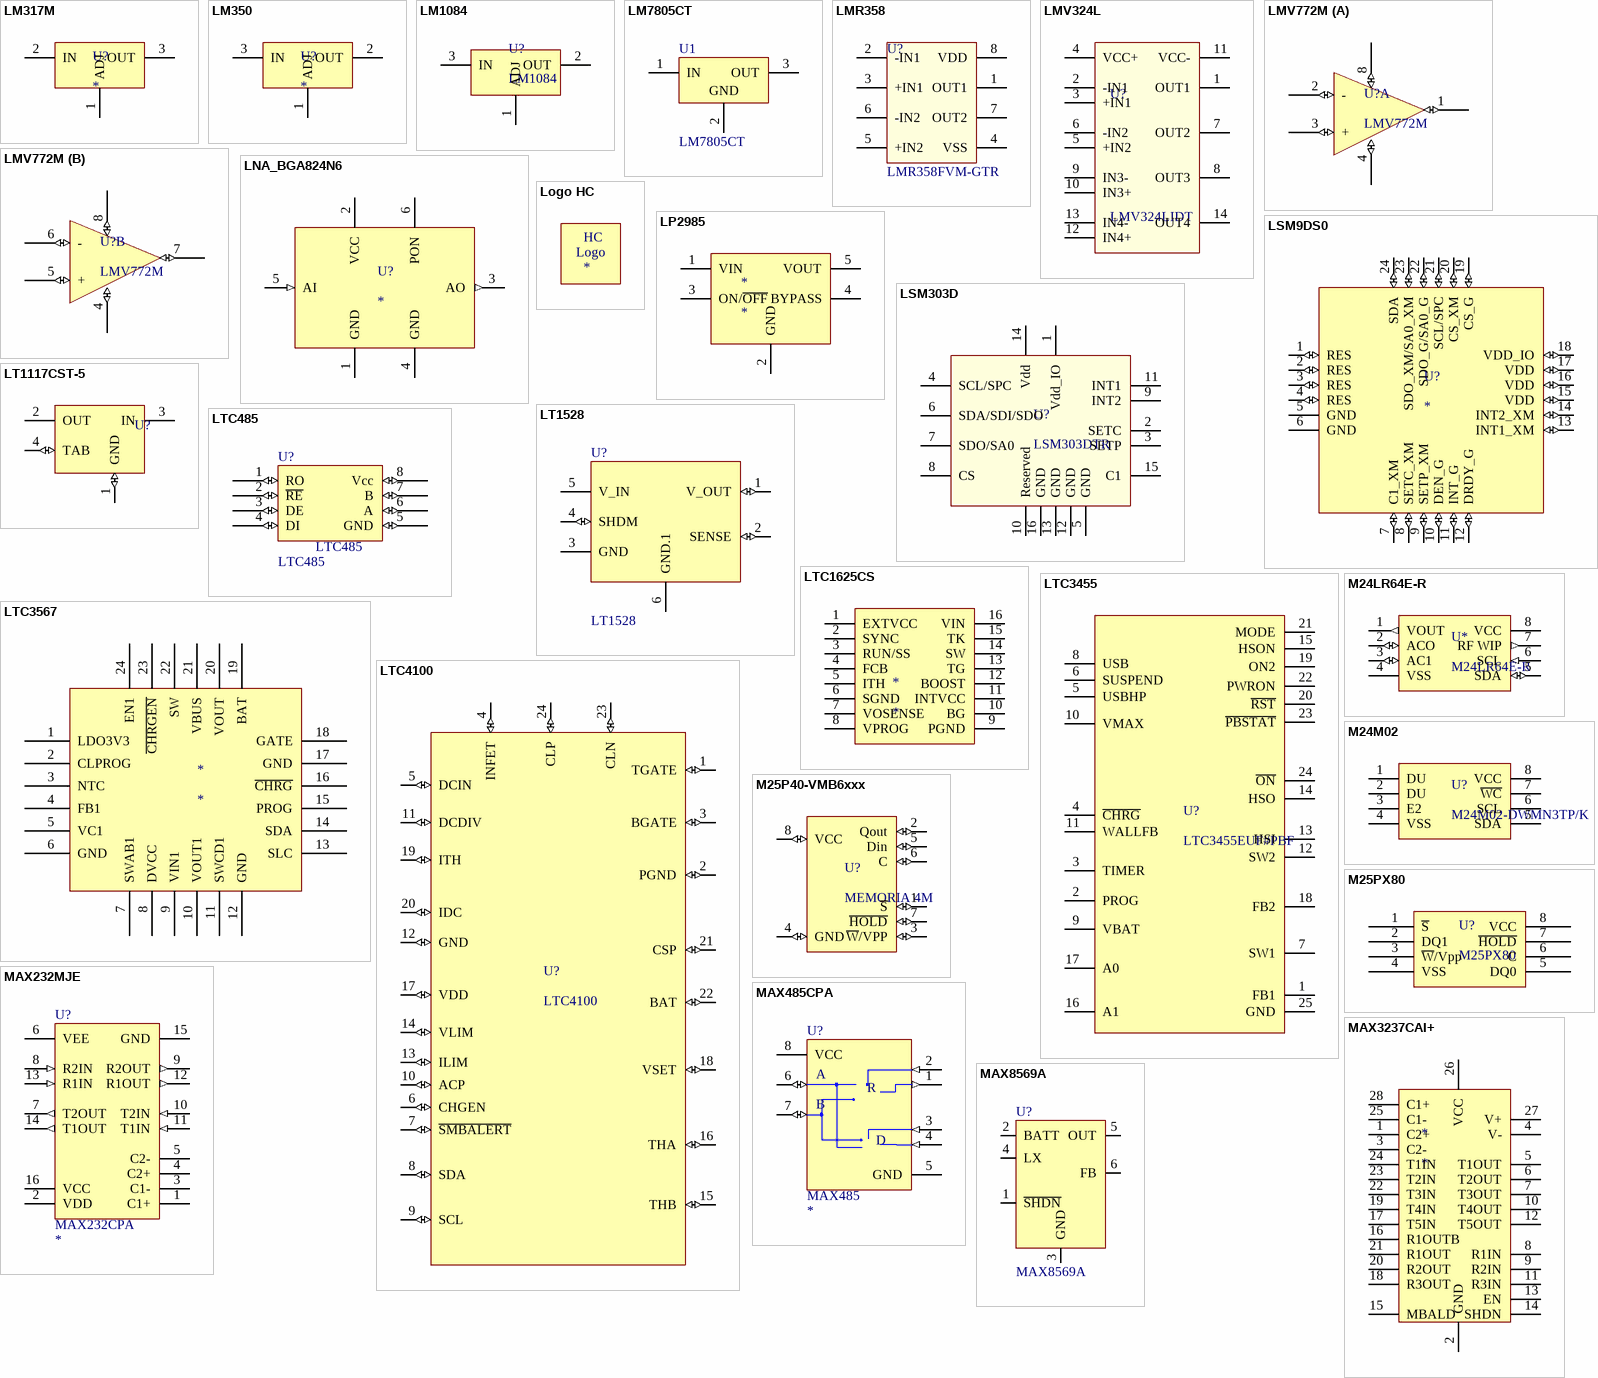
[diagram p10: symbols LM317M to MAX8569A]

## LM317M
designator U?
CODIGO FARNELL: *; CODIGO DIGIKEY: *; PRECIO FARNELL 100: *; PRECIO DIGIKEY 100: *; PRECIO DIGIKEY 500: *; PRECIO FARNELL 500: *
pins: 1 ADJ, 2 IN, 3 OUT

## LM350
designator U?
CODIGO FARNELL: *
pins: 1 ADJ, 2 OUT, 3 IN

## LM1084
designator U?
REG 3.8; REFERENCIA FABRICANTE: LM1084ISX-5.0/NOPB; COD. DIGIKEY: LM1084IS-5.0-ND; CODIGO FARNELL: *; CODIGO MOUSER: *; DISTRIBUIDOR 1: *; DISTRIBUIDOR 2: *
footprint TO-263 (Regulador LM1084)
pins: 1 ADJ, 2 OUT, 3 IN

## LM7805CT
designator U1
Series 3-Terminal Positive Regulator; Manufacturer: National Semiconductor; Package Information: Latest Revision: 1995; Class I: Power Management; Class II: Voltage Regulator; Note: Tab is connected to GND; Published: 15-Apr-2002; Datasheet: Latest Revision: May-1999; Package Reference: T03B; Publisher: Altium Limited; REF FARNELL: *
footprint SFM-T3/A4.7V
footprint TO-220 horizontal
pins: 1 IN (power), 2 GND (power), 3 OUT (power)

## LMR358
designator U?, comment LMR358FVM-GTR
Amplificador Operacional; FABRICANTE: Rohm; Vin: 2.7 V ~ 5.5 V; CODIGO DIGIKEY: LMR358FVM-GCT-ND; CODIGO FARNELL: *; CODIGO MOUSER: *; DISTRIBUIDOR 1: *; DISTRIBUIDOR 2: *; REF_FABRICANTE: LMR358FVM-GTR; ComponentLink1URL: *; ComponentLink1Description: *
footprint MSOP-8
pins: 1 OUT1, 2 -IN1, 3 +IN1, 4 VSS, 5 +IN2, 6 -IN2, 7 OUT2, 8 VDD

## LMV324L
designator U?, comment LMV324LIDT
Amplificador Operacional; FABRICANTE: STMicroelectronics; Vin: 2.7 V ~ 5.5 V; CODIGO DIGIKEY: 497-13052-1-ND; CODIGO FARNELL: *; CODIGO MOUSER: *; DISTRIBUIDOR 1: *; DISTRIBUIDOR 2: *; REF_FABRICANTE: LMV324LIDT; ComponentLink1URL: *; ComponentLink1Description: *
footprint SOIC-14
pins: 1 OUT1, 2 -IN1, 3 +IN1, 4 VCC+, 5 +IN2, 6 -IN2, 7 OUT2, 8 OUT3, 9 IN3-, 10 IN3+, 11 VCC-, 12 IN4+, 13 IN4-, 14 OUT4

## LMV772M
designator U?
CODIGO FARNELL: *; CODIGO MOUSER: *
part A pins: 1 (io), 2 - (io), 3 + (io), 4 (io), 8 (io)
part B pins: 4 (io), 5 + (io), 6 - (io), 7 (io), 8 (io)

## LNA_BGA824N6
designator U?
LNA_Low noise Amplifier; CODIGO DIGIKEY: *; CODIGO FARNELL: *; CODIGO MOUSER: *; ComponentLink1Description: *; ComponentLink1URL: *; FABRICANTE: *; REF_FABRICANTE: *; DISTRIBUIDOR 1: *; DISTRIBUIDOR 2: *
pins: 1 GND (power), 2 VCC (power), 3 AO (out), 4 GND (power), 5 AI (in), 6 PON

## Logo HC
designator HC
Logotico
footprint logo HC (logo de HC de 1,5x1,5mm aproximadamente)
footprint logo small HC (Logo de 7x7mm aproximadamente)
text: Logo

## LP2985
designator *
pins: 1 VIN, 2 GND, 3 ON/~{OFF}, 4 BYPASS, 5 VOUT

## LSM9DS0
designator U?
CODIGO FARNELL: *; CODIGO DIGIKEY: *; CODIGO MOUSER: *; FABRICANTE: *; CODIGO FABRICANTE: *; DISTRIBUIDOR 1: *; DISTRIBUIDOR 2: *
pins: 1 RES (io), 2 RES (io), 3 RES (io), 4 RES (io), 5 GND (power), 6 GND (power), 7 C1_XM (io), 8 SETC_XM (io), 9 SETP_XM (io), 10 DEN_G (io), 11 INT_G (io), 12 DRDY_G (io), 13 INT1_XM (io), 14 INT2_XM (io), 15 VDD (io), 16 VDD (io), 17 VDD (io), 18 VDD_IO (io), 19 CS_G (io), 20 CS_XM (io), 21 SCL/SPC (io), 22 SDO_G/SA0_G (io), 23 SDO_XM/SA0_XM (io), 24 SDA (io)

## LSM303D
designator U?, comment LSM303DTR
FABRICANTE: STMicroelectronics; CODIGO DIGIKEY: 497-13819-1-ND; CODIGO FARNELL: *; CODIGO MOUSER: *; REF_FABRICANTE: LSM303DTR; DISTRIBUIDOR1: *; DISTRIBUIDOR2: *
footprint LSM303D (SGTL5000)
pins: 1 Vdd_IO, 2 SETC, 3 SETP, 4 SCL/SPC, 5 GND, 6 SDA/SDI/SDO, 7 SDO/SA0, 8 CS, 9 INT2, 10 Reserved, 11 INT1, 12 GND, 13 GND, 14 Vdd, 15 C1, 16 GND

## LT1117CST-5
designator U?
LT1117CST-5; CODIGO FARNELL: *; CODIGO MOUSER: *; PROVEEDOR 2: *
pins: 1 GND (io), 2 OUT (power), 3 IN (power), 4 TAB (io)

## LT1528
designator U?
CÓDIGO FARNELL: *
pins: 1 V_OUT (io), 2 SENSE (io), 3 GND (power), 4 SHDM (io), 5 V_IN (power) "ENTRADA DE ALIMENTACIÓN", 6 GND.1 (power)

## LTC485
designator U?
485 protocol Transceiver; CODIGO FARNELL: 9561331; PRECIO FARNELL: 4,38
pins: 1 RO (io), 2 ~{RE} (io), 3 DE (io), 4 DI (io), 5 GND (io), 6 A (io), 7 B (io), 8 Vcc (io)

## LTC1625CS
designator *
CODIGO FARNELL: *; PRECIO FARNELL: *
pins: 1 EXTVCC , 2 SYNC, 3 RUN/SS, 4 FCB, 5 ITH, 6 SGND, 7 VOSENSE, 8 VPROG, 9 PGND, 10 BG, 11 INTVCC, 12 BOOST, 13 TG, 14 SW, 15 TK, 16 VIN

## LTC3455
designator U?, comment LTC3455EUF#PBF
CODIGO FARNELL: 1273944; CODIGO DIGIKEY: LTC3455EUF-ND; PRECIO DIGIKEY 1: 3.6869; PRECIO DIGIKEY 100: *; PRECIO FARNELL 1: 7.24; PRECIO FARNELL 100: 4.23
pins: 1 FB1 (power), 2 PROG (power), 3 TIMER (power), 4 ~{CHRG} (power), 5 USBHP (power), 6 SUSPEND (power), 7 SW1 (power), 8 USB (power), 9 VBAT (power), 10 VMAX (power), 11 WALLFB (power), 12 SW2 (power), 13 HSI (power), 14 HSO (power), 15 HSON (power), 16 A1 (power), 17 A0 (power), 18 FB2 (power), 19 ON2 (power), 20 ~{RST} (power), 21 MODE (power), 22 PWRON (power), 23 ~{PBSTAT} (power), 24 ~{ON} (power), 25 GND (power)

## LTC3567
designator *
pins: 1 LDO3V3, 2 CLPROG, 3 NTC, 4 FB1, 5 VC1, 6 GND, 7 SWAB1, 8 DVCC, 9 VIN1, 10 VOUT1, 11 SWCD1, 12 GND, 13 SLC, 14 SDA, 15 PROG, 16 ~{CHRG}, 17 GND, 18 GATE, 19 BAT, 20 VOUT, 21 VBUS, 22 SW, 23 ~{CHRGEN}, 24 EN1

## LTC4100
designator U?
CODIGO DIGIKEY: *; CODIGO FARNELL: *; CODIGO MOUSER: *; DISTRIBUIDOR 1: *; DISTRIBUIDOR 2: *; FABRICANTE: *; FOOTPRINT: *; CODIGO FABRICANTE: *
pins: 1 TGATE (io), 2 PGND (io), 3 BGATE (io), 4 INFET (io), 5 DCIN (io), 6 CHGEN (io), 7 ~{SMBALERT} (io), 8 SDA (io), 9 SCL (io), 10 ACP (io), 11 DCDIV (io), 12 GND (io), 13 ILIM (io), 14 VLIM (io), 15 THB (io), 16 THA (io), 17 VDD (io), 18 VSET (io), 19 ITH (io), 20 IDC (io), 21 CSP (io), 22 BAT (io), 23 CLN (io), 24 CLP (io)

## M24LR64E-R
designator U*
CODIGO DIGIKEY: *; CODIGO FABRICANTE: *
pins: 1 VOUT (out), 2 ACO (io), 3 AC1 (io), 4 VSS (power), 5 SDA (io), 6 SCL (in), 7 RF WIP (out), 8 VCC (power)

## M24M02
designator U?, comment M24M02-DWMN3TP/K
EEPROM 2M; FABRICANTE: STMicroelectronics; CODIGO DIGIKEY: 497-16238-1-ND; REF_FABRICANTE: M24M02-DWMN3TP/K; CODIGO FARNELL: *; CODIGO MOUSER: *; DISTRIBUIDOR1: *; DISTRIBUIDOR2: *
footprint SO-8
pins: 1 DU, 2 DU, 3 E2, 4 VSS (power), 5 SDA, 6 SCL, 7 ~{WC}, 8 VCC (power)

## M25P40-VMB6xxx
designator U?, comment MEMORIA 4M
FABRICANTE: MICRON TECHNOLOGY; CODIGO FABRICANTE: M25P40-VMB6TPB TR; MEMORIA: 4M (512K X 8); TIPO: FLASH; INTERFACE: SPI; DESCRIPCION: IC FLASH 4MBIT 75MHZ 8UFDFPN; CODIGO DIGIKEY: M25P40-VMB6TPB TR-ND
pins: 1 ~{S} (io), 2 Qout (io), 3 ~{W}/VPP (io), 4 GND (io), 5 Din (io), 6 C (io), 7 ~{HOLD} (io), 8 VCC (io)

## M25PX80
designator U?
FABRICANTE: MICRON; REFERENCIA FABRICANTE: M25PX80-VMP6TG; CODIGO DIGIKEY: *; CODIGO MOUSER: *; CODIGO FARNELL: *
pins: 1 ~{S}, 2 DQ1, 3 ~{W}/Vpp, 4 VSS, 5 DQ0, 6 C, 7 ~{HOLD}, 8 VCC

## MAX232MJE
designator U?, comment MAX232CPA
+5V Powered RS-232 Driver/Receiver; Manufacturer: Maxim; Class I: Communication; Class II: Transceiver; Published: 16-Jan-2001; Revision: July-2002: Re-released for DXP Platform.; Datasheet: Latest Revision: Apr-1992; Package Reference: JE16; Publisher: Altium Limited; REF FARNELL: *
footprint DIP-16
pins: 1 C1+, 2 VDD (power), 3 C1-, 4 C2+, 5 C2-, 6 VEE (power), 7 T2OUT (out), 8 R2IN (in), 9 R2OUT (out), 10 T2IN (in), 11 T1IN (in), 12 R1OUT (out), 13 R1IN (in), 14 T1OUT (out), 15 GND (power), 16 VCC (power)

## MAX485CPA
designator U?, comment MAX485
Low-Power, Slew-Rate-Limited RS-485/RS-422 Transceiver; Manufacturer: Maxim; Class I: Communication; Published: 16-Jan-2001; Revision: July-2002: Re-released for DXP Platform.; Datasheet: Latest Revision: Feb-1996; Package Reference: PA8; Publisher: Altium Limited; Class II: Transceiver; REF FARNELL: *
footprint DIP-8
pins: 1 RO (out), 2 ~{RE} (in), 3 DE (in), 4 DI (in), 5 GND (power), 6 A (io), 7 B (io), 8 VCC (power)
text: R; D

## MAX3237CAI+
designator *
pins: 1 C2+, 2 GND, 3 C2-, 4 V-, 5 T1OUT, 6 T2OUT, 7 T3OUT, 8 R1IN, 9 R2IN, 10 T4OUT, 11 R3IN, 12 T5OUT, 13 EN, 14 SHDN, 15 MBALD, 16 R1OUTB, 17 T5IN, 18 R3OUT, 19 T4IN, 20 R2OUT, 21 R1OUT, 22 T3IN, 23 T2IN, 24 T1IN, 25 C1-, 26 VCC, 27 V+, 28 C1+

## MAX8569A
designator U?
pins: 1 ~{SHDN}, 2 BATT, 3 GND, 4 LX, 5 OUT, 6 FB

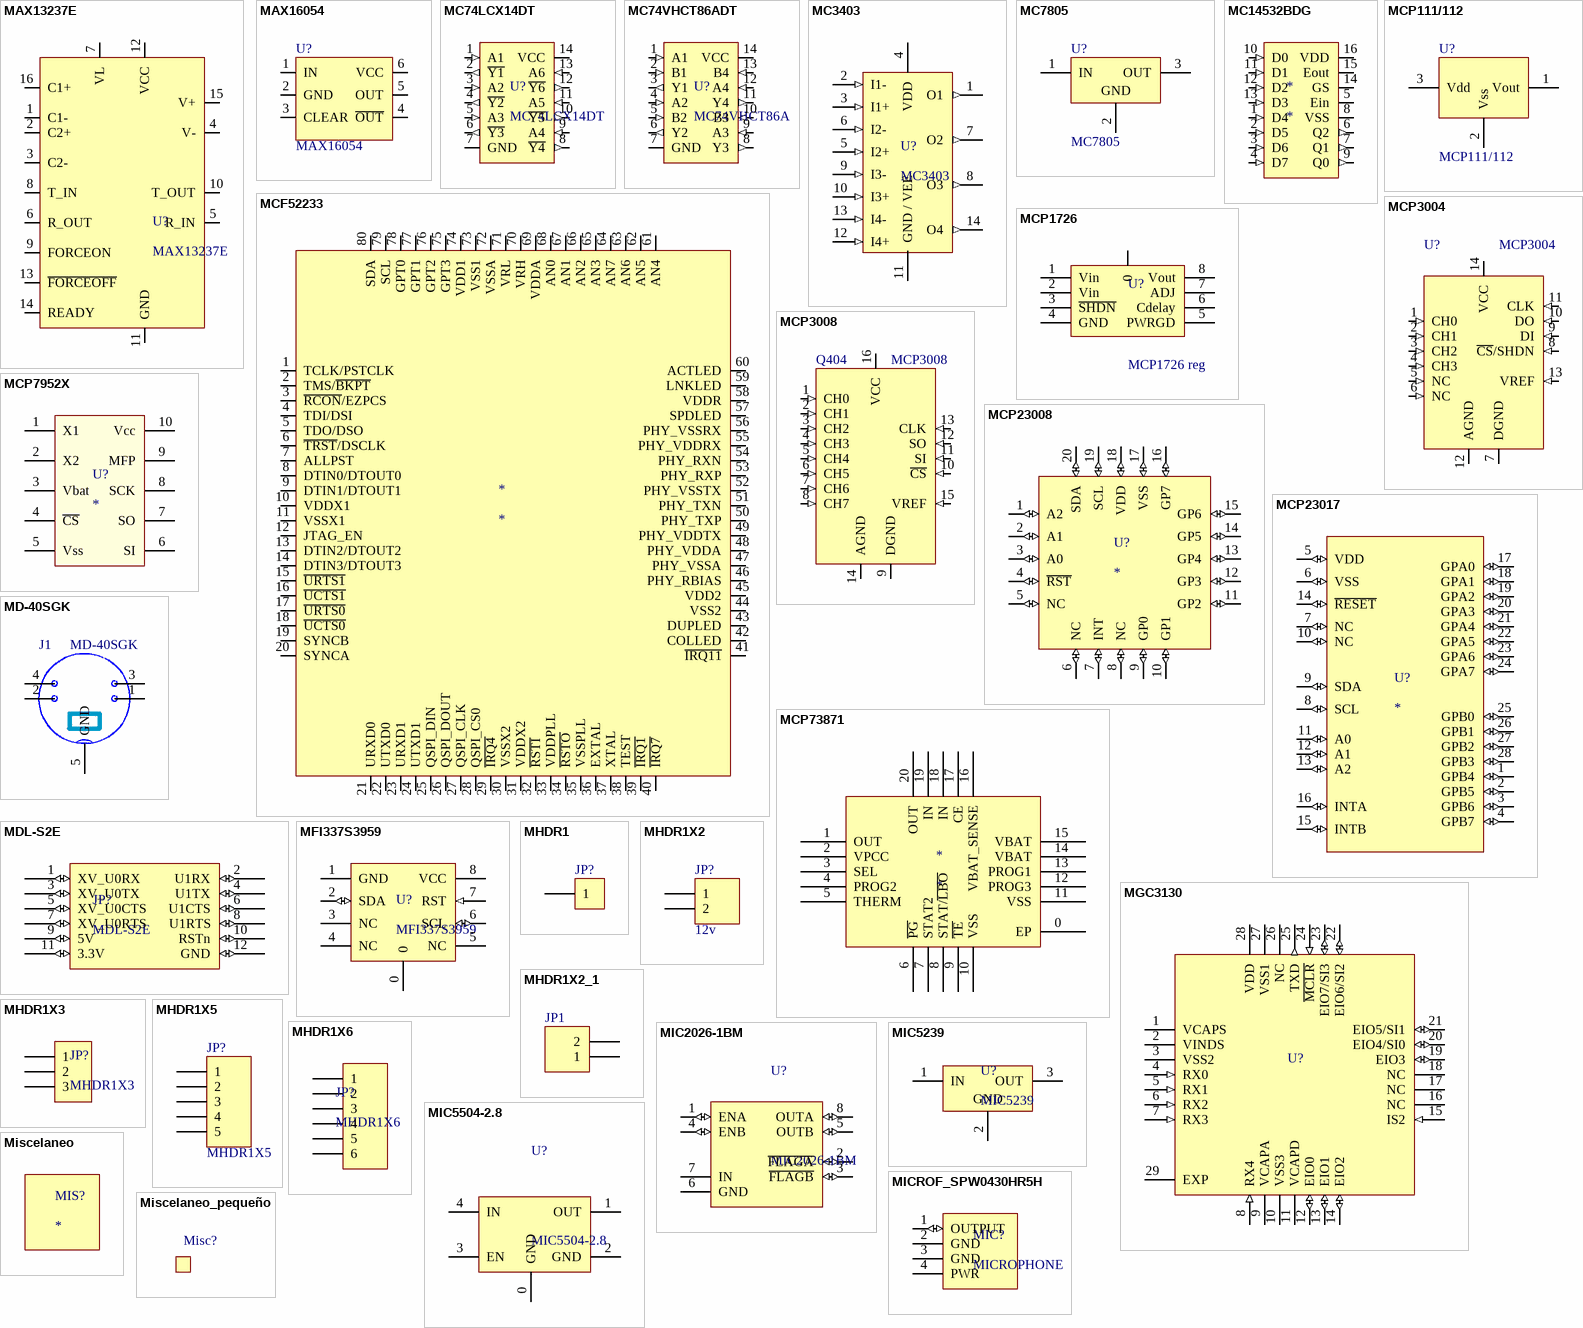
[diagram p11: symbols MAX13237E to Miscelaneo_pequeño]

## MAX13237E
designator U?
Manufacturer: MAXIM; CODIGO DIGIKEY: *; CODIGO FARNELL: *; PRECIO DIGIKEY 1: *; PRECIO DIGIKEY 100: *; PRECIO DIGIKEY 500: *; PRECIO DIGIKEY 1000: *; PRECIO FARNELL 1: *; PRECIO FARNELL 100: *; PRECIO FARNELL 500: *; PRECIO FARNELL 1000: *; STOCK DIGIKEY: *; STOCK FARNELL: *; PLAZO ENTREGA: *; Value: *
pins: 1 C1- (power), 2 C2+ (power), 3 C2- (power), 4 V- (power), 5 R_IN (io), 6 R_OUT (io), 7 VL (power), 8 T_IN (io), 9 FORCEON (io), 10 T_OUT (io), 11 GND (power), 12 VCC (power), 13 ~{FORCEOFF} (io), 14 READY (io), 15 V+ (power), 16 C1+ (power)

## MAX16054
designator U?
FABRICANTE: MAXIM; CODIGO FARNELL: *; PRECIO FARNELL: *; DISTRIBUIDOR: *
footprint SOT 23_6
pins: 1 IN, 2 GND, 3 CLEAR, 4 ~{OUT}, 5 OUT, 6 VCC

## MC74LCX14DT
designator U?
CODIFICADOR; CODIGO DIGIKEY: MC74LCX14DTR2OS-ND; PRECIO DIGIKEY 5000: 0.16863
footprint TSSOP-14
pins: 1 A1 (in), 2 ~{Y1} (out), 3 A2 (in), 4 ~{Y2} (out), 5 A3 (in), 6 ~{Y3} (out), 7 GND (power), 8 ~{Y4} (out), 9 A4 (in), 10 ~{Y5} (out), 11 A5 (in), 12 ~{Y6} (out), 13 A6 (in), 14 VCC (power)

## MC74VHCT86ADT
designator U?, comment MC74VHCT86A
CODIFICADOR; CODIGO DIGIKEY: MC74VHCT86ADTR2G-ND; PRECIO DIGIKEY 5000: 0.09574
footprint TSSOP-14
pins: 1 A1 (in), 2 B1 (in), 3 Y1 (out), 4 A2 (in), 5 B2 (in), 6 Y2 (out), 7 GND (power), 8 Y3 (out), 9 A3 (in), 10 B3 (in), 11 Y4 (out), 12 A4 (in), 13 B4 (in), 14 VCC (power)

## MC3403
designator U?
COD. FAB. MC3403DR2G; COD. DIGIKEY: MC3403DR2GOSCT-ND
footprint SOIC-14
pins: 1 O1 (out), 2 I1- (in), 3 I1+ (in), 4 VDD (power), 5 I2+ (in), 6 I2- (in), 7 O2 (out), 8 O3 (out), 9 I3- (in), 10 I3+ (in), 11 GND / VEE, 12 I4+ (in), 13 I4- (in), 14 O4 (out)

## MC7805
designator U?
REF FARNELL: *
footprint MC7805 (REGULADOR MC7805)
pins: 1 IN (power), 2 GND (power), 3 OUT (power)

## MC14532BDG
designator *
CODIFICADOR; CODIGO FARNELL: *; PRECIO FARNELL: *
pins: 1 D4 (in), 2 D5 (in), 3 D6 (in), 4 D7 (in), 5 Ein, 6 Q2 (out), 7 Q1 (out), 8 VSS, 9 Q0 (out), 10 D0 (in), 11 D1 (in), 12 D2 (in), 13 D3 (in), 14 GS, 15 Eout, 16 VDD

## MCF52233
designator *
pins: 1 TCLK/PSTCLK, 2 TMS/~{BKPT}, 3 ~{RCON}/EZPCS, 4 TDI/DSI, 5 TDO/DSO, 6 ~{TRST}/DSCLK, 7 ALLPST, 8 DTIN0/DTOUT0, 9 DTIN1/DTOUT1, 10 VDDX1, 11 VSSX1, 12 JTAG_EN, 13 DTIN2/DTOUT2, 14 DTIN3/DTOUT3, 15 ~{URTS1}, 16 ~{UCTS1}, 17 ~{URTS0}, 18 ~{UCTS0}, 19 SYNCB, 20 SYNCA, 21 URXD0, 22 UTXD0, 23 URXD1, 24 UTXD1, 25 QSPI_DIN, 26 QSPI_DOUT, 27 QSPI_CLK, 28 QSPI_CS0, 29 ~{IRQ4}, 30 VSSX2, 31 VDDX2, 32 ~{RSTI}, 33 VDDPLL, 34 ~{RSTO}, 35 VSSPLL, 36 EXTAL, 37 XTAL, 38 TEST, 39 ~{IRQ1}, 40 ~{IRQ7}, 41 ~{IRQ11}, 42 COLLED, 43 DUPLED, 44 VSS2, 45 VDD2, 46 PHY_RBIAS, 47 PHY_VSSA, 48 PHY_VDDA, 49 PHY_VDDTX, 50 PHY_TXP, 51 PHY_TXN, 52 PHY_VSSTX, 53 PHY_RXP, 54 PHY_RXN, 55 PHY_VDDRX, 56 PHY_VSSRX, 57 SPDLED, 58 VDDR, 59 LNKLED, 60 ACTLED, 61 AN4, 62 AN5, 63 AN6, 64 AN7, 65 AN3, 66 AN2, 67 AN1, 68 AN0, 69 VDDA, 70 VRH, 71 VRL, 72 VSSA, 73 VSS1, 74 VDD1, 75 GPT3, 76 GPT2, 77 GPT1, 78 GPT0, 79 SCL, 80 SDA

## MCP111/112
designator U?
pins: 1 Vout, 2 Vss, 3 Vdd

## MCP1726
designator U?, comment MCP1726 reg
REFERENCIA FABRICANTE: MCP1726-ADJE/MF; CODIGO DIGIKEY: MCP1726-ADJE/MF-ND; CODIGO FARNELL: *; CODIGO MOUSER: *; DISTRIBUIDOR1: *; DISTRIBUIDOR2: *; FABRICANTE: *
footprint DIP6
footprint MCP1726 (REG MCP1726 ADJ)
pins: 0, 1 Vin, 2 Vin, 3 ~{SHDN}, 4 GND, 5 PWRGD, 6 Cdelay, 7 ADJ, 8 Vout

## MCP3004
designator U?
Analog 8-Channel Port Expander on SPI Bus; Part Number: 04-0042; Part Description: 2.7V 4-Channel 10BIT A/D Converter with SPI Interface; Manufacturer 1: Microchip; Manufacturer Part Number 1: MCP3004-I/SL; Type1: MIXSIG; Artikel-Nr Formatest: 0; LatestRevision Note: Initial; PartValue: MCP3004; ROHS: True; ComponentLink1Description: Datasheet; Distributor: Farnell; LatestRevision Date: 20.11.2006; Author: CBA; Case: SO-16
pins: 1 CH0 (in), 2 CH1 (in), 3 CH2 (in), 4 CH3 (in), 5 NC (in), 6 NC (in), 7 DGND (power), 8 ~{CS}/SHDN (in), 9 DI (in), 10 DO (in), 11 CLK (in), 12 AGND (power), 13 VREF (in), 14 VCC (power)

## MCP3008
designator Q404
Analog 8-Channel Port Expander on SPI Bus; Part Number: 04-0042; Part Description: 2.7V 8-Channel 10BIT A/D Converter with SPI Interface; Manufacturer 1: Microchip; Manufacturer Part Number 1: MCP3008-I/SL; Type1: MIXSIG; Order Number: 4509833; Artikel-Nr Formatest: 0; LatestRevision Note: Initial; PartValue: MCP3008; ROHS: True; ComponentLink1Description: Datasheet; ComponentLink1URL: http://ww1.microchhttp://ww1.microchip.com/downloads/en/DeviceDoc/21295b.pdf; Distributor: Farnell; Price: 4.4; LatestRevision Date: 20.11.2006; Author: CBA; Case: SO-16
footprint 04_SO-16_DRK
pins: 1 CH0 (in), 2 CH1 (in), 3 CH2 (in), 4 CH3 (in), 5 CH4 (in), 6 CH5 (in), 7 CH6 (in), 8 CH7 (in), 9 DGND (power), 10 ~{CS} (in), 11 SI (in), 12 SO (in), 13 CLK (in), 14 AGND (power), 15 VREF (in), 16 VCC (power)

## MCP7952X
designator U?
CODIGO DIGIKEY: *; CODIGO FARNELL: *; CODIGO MOUSER: *; REF_FABRICANTE: *; FABRICANTE: *; DISTRIBUIDOR1: *; DISTRIBUIDOR2: *
pins: 1 X1, 2 X2, 3 Vbat, 4 ~{CS}, 5 Vss, 6 SI, 7 SO, 8 SCK, 9 MFP, 10 Vcc

## MCP23008
designator U?
CODIGO MOUSER: *; CODIGO DIGIKEY: *; CODIGO FARNELL: *; REF FABRICANTE: *; DISTRIBUIDOR 1: *; DISTRIBUIDOR 2: *; FABRICANTE: *
pins: 1 A2 (io), 2 A1 (io), 3 A0 (io), 4 ~{RST} (io), 5 NC (io), 6 NC (io), 7 INT (io), 8 NC (io), 9 GP0 (io), 10 GP1 (io), 11 GP2 (io), 12 GP3 (io), 13 GP4 (io), 14 GP5 (io), 15 GP6 (io), 16 GP7 (io), 17 VSS (io), 18 VDD (io), 19 SCL (io), 20 SDA (io)

## MCP23017
designator U?
CODIGO MOUSER: *; CODIGO DIGIKEY: *; CODIGO FARNELL: *; REF FABRICANTE: *; DISTRIBUIDOR 1: *; DISTRIBUIDOR 2: *; FABRICANTE: *
pins: 1 GPB4 (io), 2 GPB5 (io), 3 GPB6 (io), 4 GPB7 (io), 5 VDD (io), 6 VSS (io), 7 NC (io), 8 SCL (io), 9 SDA (io), 10 NC (io), 11 A0 (io), 12 A1 (io), 13 A2 (io), 14 ~{RESET} (io), 15 INTB (io), 16 INTA (io), 17 GPA0 (io), 18 GPA1 (io), 19 GPA2 (io), 20 GPA3 (io), 21 GPA4 (io), 22 GPA5 (io), 23 GPA6 (io), 24 GPA7 (io), 25 GPB0 (io), 26 GPB1 (io), 27 GPB2 (io), 28 GPB3 (io)

## MCP73871
designator *
CODIGO MOUSER: *; CODIGO DIGIKEY: *; CODIGO FARNELL: *; REF FABRICANTE: *; DISTRIBUIDOR 1: *; DISTRIBUIDOR 2: *; FABRICANTE: *
pins: 0 EP, 1 OUT, 2 VPCC, 3 SEL, 4 PROG2, 5 THERM, 6 ~{PG}, 7 STAT2, 8 STAT/~{LBO}, 9 ~{TE}, 10 VSS, 11 VSS, 12 PROG3, 13 PROG1, 14 VBAT, 15 VBAT, 16 VBAT_SENSE, 17 CE, 18 IN, 19 IN, 20 OUT

## MD-40SGK
designator J1
Manufacturer: CUI INC; PLAZO ENTREGA: INMEDIATO DIGIKEY; DISTRIBUIDOR: *; CODIGO DIGIKEY: CP-6040-ND; STOCK DIGIKEY: 1141; PRECIO DIGIKEY 1: 1.9; PRECIO DIGIKEY 100: 1.2672; PRECIO DIGIKEY 500: 1.05178; PRECIO DIGIKEY 1000: 0.9504
pins: 1, 2, 3, 4, 5 GND

## MDL-S2E
designator JP?
CODIGO FARNELL: *; CODIGO DIGIKEY: *; CODIGO MOUSER: *; DISTRIBUIDOR: *
pins: 1 XV_U0RX (io), 2 U1RX (io), 3 XV_U0TX (io), 4 U1TX (io), 5 XV_U0CTS (io), 6 U1CTS (io), 7 XV_U0RTS (io), 8 U1RTS (io), 9 5V (io), 10 RSTn (io), 11 3.3V (io), 12 GND (io)

## MFI337S3959
designator U?
CODIGO FARNELL: *
pins: 0, 1 GND, 2 SDA (io), 3 NC, 4 NC, 5 NC, 6 SCL (io), 7 RST (in), 8 VCC

## MGC3130
designator U?  (value not drawn)
FABRICANTE: Microchip; CODIGO_DIGIKEY: *; CODIGO_FARNELL: *; CODIGO_MOUSER: *; DISTRIBUIDOR_1: *; DISTRIBUIDOR 2: *; CODIGO_FABRICANTE: *
pins: 1 VCAPS (power), 2 VINDS (power), 3 VSS2 (power), 4 RX0 (in), 5 RX1 (in), 6 RX2 (in), 7 RX3 (in), 8 RX4 (in), 9 VCAPA (power), 10 VSS3 (power), 11 VCAPD (power), 12 EIO0 (io), 13 EIO1 (io), 14 EIO2 (io), 15 IS2 (in), 16 NC, 17 NC, 18 NC, 19 EIO3 (io), 20 EIO4/SI0 (io), 21 EIO5/SI1 (io), 22 EIO6/SI2 (io), 23 EIO7/SI3 (io), 24 ~{MCLR} (in), 25 TXD (out), 26 NC, 27 VSS1 (power), 28 VDD (power), 29 EXP (power)

## MHDR1
designator JP?  (value not drawn)
Header, 2-Pin; Manufacturer: Generic Components; Class I: Connector; Revision: July-2002: Re-released for DXP Platform.; Publisher: Altium Limited
signal-integrity model Connector
pins: 1

## MHDR1X2
designator JP?, comment 12v
Header, 2-Pin; Manufacturer: Generic Components; Class I: Connector; Revision: July-2002: Re-released for DXP Platform.; Publisher: Altium Limited
footprint ALIM PINES 90 (CONECTOR ALIMENTACION A 90 GRADOS)
signal-integrity model Connector
pins: 1, 2

## MHDR1X2_1
designator JP1, comment 2 PAD  (value not drawn)
Header, 2-Pin; Manufacturer: Generic Components; Class I: Connector; Revision: July-2002: Re-released for DXP Platform.; Publisher: Altium Limited
signal-integrity model Connector
footprint 2-PAD SOLDER (2 PAD´S DE SOLDADURA)
pins: 1, 2

## MHDR1X3
designator JP?
Pin de conexion; CODIGO_FARNELL: *; CODIGO_DIGIKEY: *; CODIGO_MOUSER: *; CODIGO_FABRICANTE: *; DISTRIBUIDOR1: *; DISTRIBUIDOR2: *; VALOR: *
pins: 1, 2, 3

## MHDR1X5
designator JP?
Header, 5-Pin; Revision: *; CODIGO_MOUSER: *; CODIGO_DIGIKEY: *; CODIGO_FARNELL: *; CODIGO_PRODUCTO: *; DISTRIBUIDOR1: *; DISTRIBUIDOR2: *; VALOR: *
footprint HDR1X5
signal-integrity model Connector
pins: 1, 2, 3, 4, 5

## MHDR1X6
designator JP?
Terminal de 6 pines; CODIGO_FARNELL: *; CODIGO_DIGIKEY: *; CODIGO_MOUSER: *; CODIGO_FABRICANTE: *; DISTRIBUIDOR1: *; DISTRIBUIDOR2: *; VALOR: *
pins: 1, 2, 3, 4, 5, 6

## MIC2026-1BM
designator U?
CODIGO FARNELL: *; CODIGO MOUSER: *; DISTRIBUIDOR 1: *; DISTRIBUIDOR 2: *
pins: 1 ENA (io), 2 ~{FLAGA} (io), 3 ~{FLAGB} (io), 4 ENB (io), 5 OUTB (io), 6 GND (power), 7 IN (power), 8 OUTA (io)

## MIC5239
designator U?
Regulador 24 to 3,3V; CODIGO DIGIKEY: *; CODIGO FARNELL: *; CODIGO MOUSER: *; FABRICANTE: *; REFERENCIA FABRICANTE: *; DISTRIBUIDOR 1: *; DISTRIBUIDOR 2: *
pins: 1 IN (power), 2 GND (power), 3 OUT (power)

## MIC5504-2.8
designator U?
LDO 2,3-5.5 to 3.0V; REF FABRICANTE: MIC5504-2.8YMT; FABRICANTE: MICREL; CÓDIGO FARNELL: *; CÓDIGO MOUSER: *; CODIGO DIGIKEY: 576-4307-1-ND; DISTRIBUIDOR 1: *; DISTRIBUIDOR 2: *
pins: 0 GND (power), 1 OUT, 2 GND (power), 3 EN, 4 IN

## MICROF_SPW0430HR5H
designator MIC?, comment MICROPHONE
CODIGO DIGIKEY: *; CODIGO MOUSER: *; CODIGO FARNELL: *; CODIGO PRODUCTO: *; DISTRIBUIDOR 1: *; DISTRIBUIDOR 2: *; FABRICANTE: *
pins: 1 OUTPUT (io), 2 GND (power), 3 GND (power), 4 PWR (power)

## Miscelaneo
designator MIS?
CODIGO DIGIKEY: *; CODIGO FARNELL: *; CODIGO MOUSER: *; REF_FABRICANTE: *; DISTRIBUIDOR1: *; DISTRIBUIDOR2: *; FABRICANTE: *; ComponentLink1Description: *; ComponentLink1URL: *